# Altium schematic symbol library BundledUserSymbols.SchLib: 915 symbols (part 11 of 17)

## 0187 ST STM32G071KxTxN LQFP32 P
designator IC?
pins: 1 PB9/IR_OUT/UCPD2_FRSTX/TIM17_CH1/USART3_RX/SPI2_NSS/I2C1_SDA, 2 PC14/TIM1_BKIN2/OSC32_IN/OSC_IN, 3 PC15/OSC32_EN/OSC_EN/TIM15_BKIN/OSC32_OUT, 4 VDD/VDDA, 5 VSS/VSSA, 6 PF2/MCO/NRST, 7 PA0/SPI2_SCK/USART2_CTS/TIM2_CH1_ETR/USART4_TX/LPTIM1_OUT/UCPD2_FRSTX/ADC_IN0, 8 PA1/SPI1_SCK/I2S1_CK/USART2_RTS_DE_CK/TIM2_CH2/USART4_RX/I2C1_SMBA/ADC_IN1, 9 PA2/SPI1_MOSI/I2S1_SD/USART2_TX/TIM2_CH3/UCPD1_FRSTX/TIM15_CH1/ADC_IN2/LSCO, 10 PA3/SPI2_MISO/USART2_RX/TIM2_CH4/UCPD2_FRSTX/TIM15_CH2/LPUART1_RX/COMP2_INP/ADC_IN3, 11 PA4/SPI1_NSS/I2S1_WS/SPI2_MOSI/UCPD2_FRSTX/ADC_IN4/DAC_OUT1/RTC_TS/RTC_OUT1, 12 PA5/SPI1_SCK/I2S1_CK/CEC/TIM2_CH1_ETR/USART3_TX/LPTIM2_ETR/UCPD1_FRSTX/ADC_IN5/DAC_OUT2, 13 PA6/SPI1_MISO/I2S1_MCK/TIM3_CH1/TIM1_BKIN/USART3_CTS/TIM16_CH1/LPUART1_CTS/COMP1_OUT/ADC_IN6, 14 PA7/SPI1_MOSI/I2S1_SD/TIM3_CH2/TIM1_CH1N/TIM14_CH1/TIM17_CH1/UCPD1_FRSTX/COMP2_OUT/ADC_IN7, 15 PB0/SPI1_NSS/I2S1_WS/TIM3_CH3/TIM1_CH2N/USART3_RX/LPTIM1_OUT/UCPD1_FRSTX/COMP1_OUT/ADC_IN8, 16 PB1/TIM14_CH1/TIM3_CH4/TIM1_CH3N/USART3_RTS_DE_CK/LPTIM2_IN1/LPUART1_RTS_DE/COMP1_INM/ADC_IN9, 17 PB15/SPI2_MOSI/TIM1_CH3N/TIM15_CH1N/TIM15_CH2/UCPD1_CC2/RTC_REFIN, 18 PA8/MCO/SPI2_NSS/TIM1_CH1/LPTIM2_OUT/UCPD1_CC1, 19 PA9/MCO/USART1_TX/TIM1_CH2/SPI2_MISO/TIM15_BKIN/I2C1_SCL/UCPD1_DBCC1, 20 PC6/UCPD1_FRSTX/TIM3_CH1/TIM2_CH3, 21 PA10/SPI2_MOSI/USART1_RX/TIM1_CH3/TIM17_BKIN/I2C1_SDA/UCPD1_DBCC2, 22 PA11[PA9](4)/SPI1_MISO/I2S1_MCK/USART1_CTS/TIM1_CH4/TIM1_BKIN2/I2C2_SCL/COMP1_OUT, 23 PA12[PA10](4)/SPI1_MOSI/I2S1_SD/USART1_RTS_DE_CK/TIM1_ETR/I2S_CKIN/I2C2_SDA/COMP2_OUT, 24 PA13/SWDIO/IR_OUT, 25 PA14/BOOT0/SWCLK/USART2_TX, 26 PD0/SPI2_NSS/TIM16_CH1/UCPD2_CC1, 27 PD1/SPI2_SCK/TIM17_CH1/UCPD2_DBCC1, 28 PD2/USART3_RTS_DE_CK/TIM3_ETR/TIM1_CH1N/UCPD2_CC2, 29 PD3/USART2_CTS/SPI2_MISO/TIM1_CH2N/UCPD2_DBCC2, 30 PB6/USART1_TX/TIM1_CH3/TIM16_CH1N/SPI2_MISO/LPTIM1_ETR/I2C1_SCL/COMP2_INP, 31 PB7/USART1_RX/SPI2_MOSI/TIM17_CH1N/USART4_CTS/LPTIM1_IN2/I2C1_SDA/COMP2_INM/PVD_IN, 32 PB8/CEC/SPI2_SCK/TIM16_CH1/USART3_TX/TIM15_BKIN/I2C1_SCL

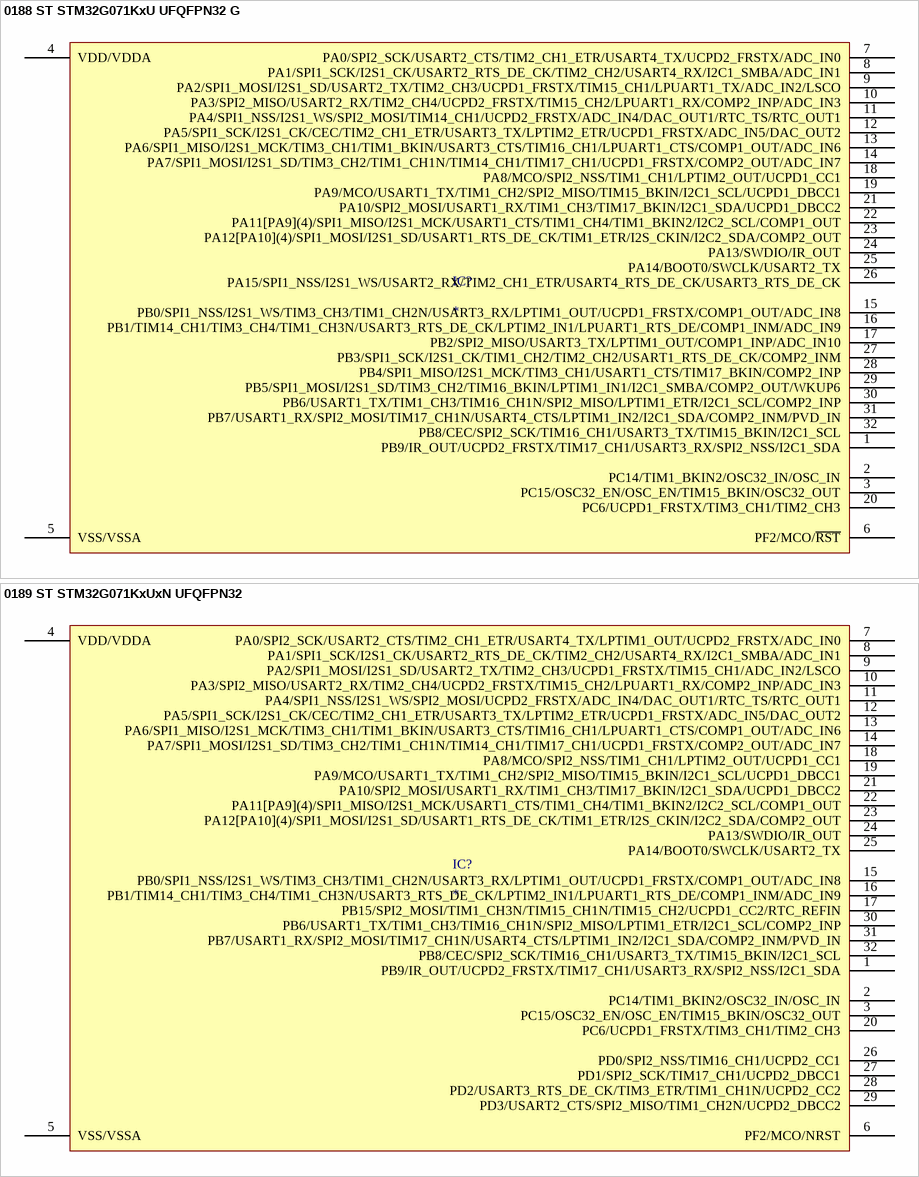
[diagram p98: symbols 0188 ST STM32G071KxU UFQFPN32 G to 0189 ST STM32G071KxUxN UFQFPN32]

## 0188 ST STM32G071KxU UFQFPN32 G
designator IC?
pins: 1 PB9/IR_OUT/UCPD2_FRSTX/TIM17_CH1/USART3_RX/SPI2_NSS/I2C1_SDA, 2 PC14/TIM1_BKIN2/OSC32_IN/OSC_IN, 3 PC15/OSC32_EN/OSC_EN/TIM15_BKIN/OSC32_OUT, 4 VDD/VDDA, 5 VSS/VSSA, 6 PF2/MCO/~{RST}, 7 PA0/SPI2_SCK/USART2_CTS/TIM2_CH1_ETR/USART4_TX/UCPD2_FRSTX/ADC_IN0, 8 PA1/SPI1_SCK/I2S1_CK/USART2_RTS_DE_CK/TIM2_CH2/USART4_RX/I2C1_SMBA/ADC_IN1, 9 PA2/SPI1_MOSI/I2S1_SD/USART2_TX/TIM2_CH3/UCPD1_FRSTX/TIM15_CH1/LPUART1_TX/ADC_IN2/LSCO, 10 PA3/SPI2_MISO/USART2_RX/TIM2_CH4/UCPD2_FRSTX/TIM15_CH2/LPUART1_RX/COMP2_INP/ADC_IN3, 11 PA4/SPI1_NSS/I2S1_WS/SPI2_MOSI/TIM14_CH1/UCPD2_FRSTX/ADC_IN4/DAC_OUT1/RTC_TS/RTC_OUT1, 12 PA5/SPI1_SCK/I2S1_CK/CEC/TIM2_CH1_ETR/USART3_TX/LPTIM2_ETR/UCPD1_FRSTX/ADC_IN5/DAC_OUT2, 13 PA6/SPI1_MISO/I2S1_MCK/TIM3_CH1/TIM1_BKIN/USART3_CTS/TIM16_CH1/LPUART1_CTS/COMP1_OUT/ADC_IN6, 14 PA7/SPI1_MOSI/I2S1_SD/TIM3_CH2/TIM1_CH1N/TIM14_CH1/TIM17_CH1/UCPD1_FRSTX/COMP2_OUT/ADC_IN7, 15 PB0/SPI1_NSS/I2S1_WS/TIM3_CH3/TIM1_CH2N/USART3_RX/LPTIM1_OUT/UCPD1_FRSTX/COMP1_OUT/ADC_IN8, 16 PB1/TIM14_CH1/TIM3_CH4/TIM1_CH3N/USART3_RTS_DE_CK/LPTIM2_IN1/LPUART1_RTS_DE/COMP1_INM/ADC_IN9, 17 PB2/SPI2_MISO/USART3_TX/LPTIM1_OUT/COMP1_INP/ADC_IN10, 18 PA8/MCO/SPI2_NSS/TIM1_CH1/LPTIM2_OUT/UCPD1_CC1, 19 PA9/MCO/USART1_TX/TIM1_CH2/SPI2_MISO/TIM15_BKIN/I2C1_SCL/UCPD1_DBCC1, 20 PC6/UCPD1_FRSTX/TIM3_CH1/TIM2_CH3, 21 PA10/SPI2_MOSI/USART1_RX/TIM1_CH3/TIM17_BKIN/I2C1_SDA/UCPD1_DBCC2, 22 PA11[PA9](4)/SPI1_MISO/I2S1_MCK/USART1_CTS/TIM1_CH4/TIM1_BKIN2/I2C2_SCL/COMP1_OUT, 23 PA12[PA10](4)/SPI1_MOSI/I2S1_SD/USART1_RTS_DE_CK/TIM1_ETR/I2S_CKIN/I2C2_SDA/COMP2_OUT, 24 PA13/SWDIO/IR_OUT, 25 PA14/BOOT0/SWCLK/USART2_TX, 26 PA15/SPI1_NSS/I2S1_WS/USART2_RX/TIM2_CH1_ETR/USART4_RTS_DE_CK/USART3_RTS_DE_CK, 27 PB3/SPI1_SCK/I2S1_CK/TIM1_CH2/TIM2_CH2/USART1_RTS_DE_CK/COMP2_INM, 28 PB4/SPI1_MISO/I2S1_MCK/TIM3_CH1/USART1_CTS/TIM17_BKIN/COMP2_INP, 29 PB5/SPI1_MOSI/I2S1_SD/TIM3_CH2/TIM16_BKIN/LPTIM1_IN1/I2C1_SMBA/COMP2_OUT/WKUP6, 30 PB6/USART1_TX/TIM1_CH3/TIM16_CH1N/SPI2_MISO/LPTIM1_ETR/I2C1_SCL/COMP2_INP, 31 PB7/USART1_RX/SPI2_MOSI/TIM17_CH1N/USART4_CTS/LPTIM1_IN2/I2C1_SDA/COMP2_INM/PVD_IN, 32 PB8/CEC/SPI2_SCK/TIM16_CH1/USART3_TX/TIM15_BKIN/I2C1_SCL

## 0189 ST STM32G071KxUxN UFQFPN32
designator IC?
pins: 1 PB9/IR_OUT/UCPD2_FRSTX/TIM17_CH1/USART3_RX/SPI2_NSS/I2C1_SDA, 2 PC14/TIM1_BKIN2/OSC32_IN/OSC_IN, 3 PC15/OSC32_EN/OSC_EN/TIM15_BKIN/OSC32_OUT, 4 VDD/VDDA, 5 VSS/VSSA, 6 PF2/MCO/NRST, 7 PA0/SPI2_SCK/USART2_CTS/TIM2_CH1_ETR/USART4_TX/LPTIM1_OUT/UCPD2_FRSTX/ADC_IN0, 8 PA1/SPI1_SCK/I2S1_CK/USART2_RTS_DE_CK/TIM2_CH2/USART4_RX/I2C1_SMBA/ADC_IN1, 9 PA2/SPI1_MOSI/I2S1_SD/USART2_TX/TIM2_CH3/UCPD1_FRSTX/TIM15_CH1/ADC_IN2/LSCO, 10 PA3/SPI2_MISO/USART2_RX/TIM2_CH4/UCPD2_FRSTX/TIM15_CH2/LPUART1_RX/COMP2_INP/ADC_IN3, 11 PA4/SPI1_NSS/I2S1_WS/SPI2_MOSI/UCPD2_FRSTX/ADC_IN4/DAC_OUT1/RTC_TS/RTC_OUT1, 12 PA5/SPI1_SCK/I2S1_CK/CEC/TIM2_CH1_ETR/USART3_TX/LPTIM2_ETR/UCPD1_FRSTX/ADC_IN5/DAC_OUT2, 13 PA6/SPI1_MISO/I2S1_MCK/TIM3_CH1/TIM1_BKIN/USART3_CTS/TIM16_CH1/LPUART1_CTS/COMP1_OUT/ADC_IN6, 14 PA7/SPI1_MOSI/I2S1_SD/TIM3_CH2/TIM1_CH1N/TIM14_CH1/TIM17_CH1/UCPD1_FRSTX/COMP2_OUT/ADC_IN7, 15 PB0/SPI1_NSS/I2S1_WS/TIM3_CH3/TIM1_CH2N/USART3_RX/LPTIM1_OUT/UCPD1_FRSTX/COMP1_OUT/ADC_IN8, 16 PB1/TIM14_CH1/TIM3_CH4/TIM1_CH3N/USART3_RTS_DE_CK/LPTIM2_IN1/LPUART1_RTS_DE/COMP1_INM/ADC_IN9, 17 PB15/SPI2_MOSI/TIM1_CH3N/TIM15_CH1N/TIM15_CH2/UCPD1_CC2/RTC_REFIN, 18 PA8/MCO/SPI2_NSS/TIM1_CH1/LPTIM2_OUT/UCPD1_CC1, 19 PA9/MCO/USART1_TX/TIM1_CH2/SPI2_MISO/TIM15_BKIN/I2C1_SCL/UCPD1_DBCC1, 20 PC6/UCPD1_FRSTX/TIM3_CH1/TIM2_CH3, 21 PA10/SPI2_MOSI/USART1_RX/TIM1_CH3/TIM17_BKIN/I2C1_SDA/UCPD1_DBCC2, 22 PA11[PA9](4)/SPI1_MISO/I2S1_MCK/USART1_CTS/TIM1_CH4/TIM1_BKIN2/I2C2_SCL/COMP1_OUT, 23 PA12[PA10](4)/SPI1_MOSI/I2S1_SD/USART1_RTS_DE_CK/TIM1_ETR/I2S_CKIN/I2C2_SDA/COMP2_OUT, 24 PA13/SWDIO/IR_OUT, 25 PA14/BOOT0/SWCLK/USART2_TX, 26 PD0/SPI2_NSS/TIM16_CH1/UCPD2_CC1, 27 PD1/SPI2_SCK/TIM17_CH1/UCPD2_DBCC1, 28 PD2/USART3_RTS_DE_CK/TIM3_ETR/TIM1_CH1N/UCPD2_CC2, 29 PD3/USART2_CTS/SPI2_MISO/TIM1_CH2N/UCPD2_DBCC2, 30 PB6/USART1_TX/TIM1_CH3/TIM16_CH1N/SPI2_MISO/LPTIM1_ETR/I2C1_SCL/COMP2_INP, 31 PB7/USART1_RX/SPI2_MOSI/TIM17_CH1N/USART4_CTS/LPTIM1_IN2/I2C1_SDA/COMP2_INM/PVD_IN, 32 PB8/CEC/SPI2_SCK/TIM16_CH1/USART3_TX/TIM15_BKIN/I2C1_SCL

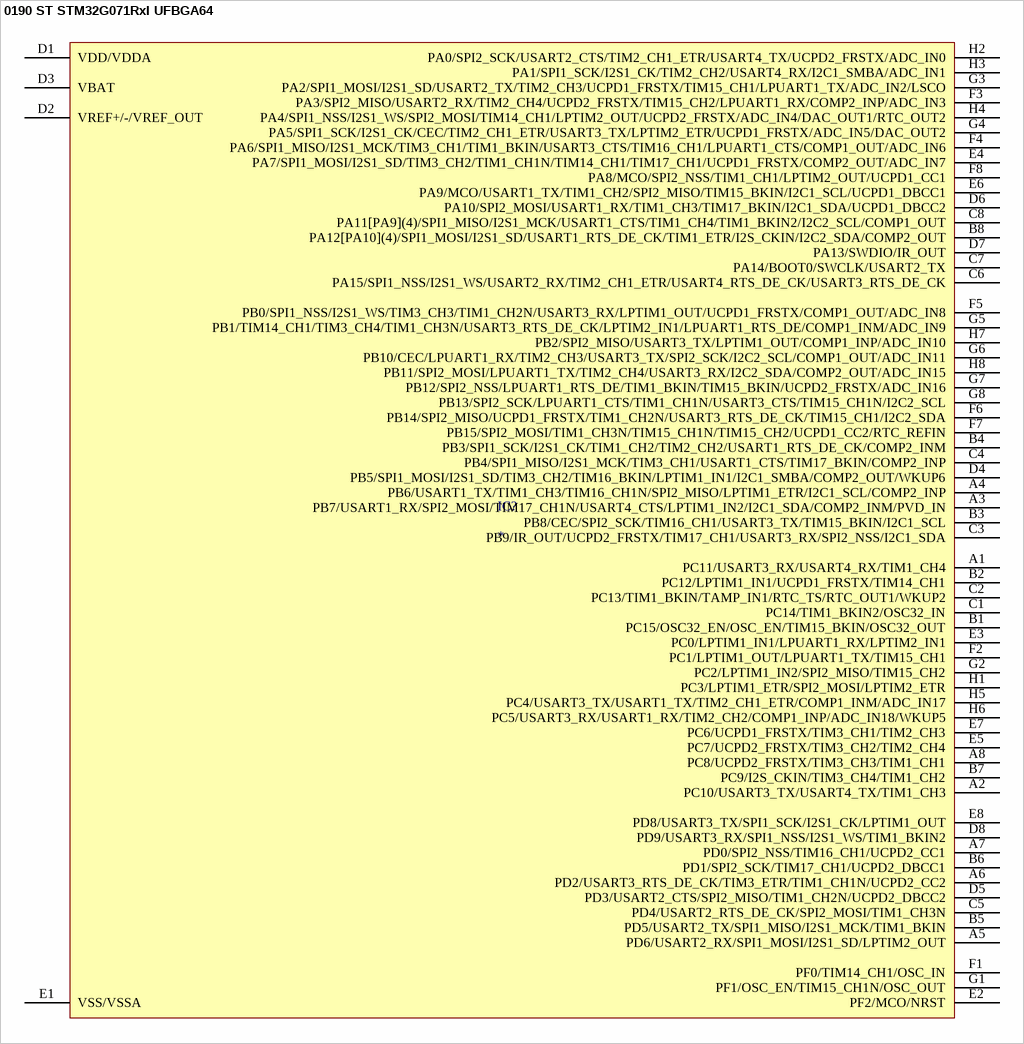
[diagram p99: symbol 0190 ST STM32G071RxI UFBGA64]

## 0190 ST STM32G071RxI UFBGA64
designator IC?
pins: A1 PC11/USART3_RX/USART4_RX/TIM1_CH4, A2 PC10/USART3_TX/USART4_TX/TIM1_CH3, A3 PB7/USART1_RX/SPI2_MOSI/TIM17_CH1N/USART4_CTS/LPTIM1_IN2/I2C1_SDA/COMP2_INM/PVD_IN, A4 PB6/USART1_TX/TIM1_CH3/TIM16_CH1N/SPI2_MISO/LPTIM1_ETR/I2C1_SCL/COMP2_INP, A5 PD6/USART2_RX/SPI1_MOSI/I2S1_SD/LPTIM2_OUT, A6 PD2/USART3_RTS_DE_CK/TIM3_ETR/TIM1_CH1N/UCPD2_CC2, A7 PD0/SPI2_NSS/TIM16_CH1/UCPD2_CC1, A8 PC8/UCPD2_FRSTX/TIM3_CH3/TIM1_CH1, B1 PC15/OSC32_EN/OSC_EN/TIM15_BKIN/OSC32_OUT, B2 PC12/LPTIM1_IN1/UCPD1_FRSTX/TIM14_CH1, B3 PB8/CEC/SPI2_SCK/TIM16_CH1/USART3_TX/TIM15_BKIN/I2C1_SCL, B4 PB3/SPI1_SCK/I2S1_CK/TIM1_CH2/TIM2_CH2/USART1_RTS_DE_CK/COMP2_INM, B5 PD5/USART2_TX/SPI1_MISO/I2S1_MCK/TIM1_BKIN, B6 PD1/SPI2_SCK/TIM17_CH1/UCPD2_DBCC1, B7 PC9/I2S_CKIN/TIM3_CH4/TIM1_CH2, B8 PA12[PA10](4)/SPI1_MOSI/I2S1_SD/USART1_RTS_DE_CK/TIM1_ETR/I2S_CKIN/I2C2_SDA/COMP2_OUT, C1 PC14/TIM1_BKIN2/OSC32_IN, C2 PC13/TIM1_BKIN/TAMP_IN1/RTC_TS/RTC_OUT1/WKUP2, C3 PB9/IR_OUT/UCPD2_FRSTX/TIM17_CH1/USART3_RX/SPI2_NSS/I2C1_SDA, C4 PB4/SPI1_MISO/I2S1_MCK/TIM3_CH1/USART1_CTS/TIM17_BKIN/COMP2_INP, C5 PD4/USART2_RTS_DE_CK/SPI2_MOSI/TIM1_CH3N, C6 PA15/SPI1_NSS/I2S1_WS/USART2_RX/TIM2_CH1_ETR/USART4_RTS_DE_CK/USART3_RTS_DE_CK, C7 PA14/BOOT0/SWCLK/USART2_TX, C8 PA11[PA9](4)/SPI1_MISO/I2S1_MCK/USART1_CTS/TIM1_CH4/TIM1_BKIN2/I2C2_SCL/COMP1_OUT, D1 VDD/VDDA, D2 VREF+/-/VREF_OUT, D3 VBAT, D4 PB5/SPI1_MOSI/I2S1_SD/TIM3_CH2/TIM16_BKIN/LPTIM1_IN1/I2C1_SMBA/COMP2_OUT/WKUP6, D5 PD3/USART2_CTS/SPI2_MISO/TIM1_CH2N/UCPD2_DBCC2, D6 PA10/SPI2_MOSI/USART1_RX/TIM1_CH3/TIM17_BKIN/I2C1_SDA/UCPD1_DBCC2, D7 PA13/SWDIO/IR_OUT, D8 PD9/USART3_RX/SPI1_NSS/I2S1_WS/TIM1_BKIN2, E1 VSS/VSSA, E2 PF2/MCO/NRST, E3 PC0/LPTIM1_IN1/LPUART1_RX/LPTIM2_IN1, E4 PA7/SPI1_MOSI/I2S1_SD/TIM3_CH2/TIM1_CH1N/TIM14_CH1/TIM17_CH1/UCPD1_FRSTX/COMP2_OUT/ADC_IN7, E5 PC7/UCPD2_FRSTX/TIM3_CH2/TIM2_CH4, E6 PA9/MCO/USART1_TX/TIM1_CH2/SPI2_MISO/TIM15_BKIN/I2C1_SCL/UCPD1_DBCC1, E7 PC6/UCPD1_FRSTX/TIM3_CH1/TIM2_CH3, E8 PD8/USART3_TX/SPI1_SCK/I2S1_CK/LPTIM1_OUT, F1 PF0/TIM14_CH1/OSC_IN, F2 PC1/LPTIM1_OUT/LPUART1_TX/TIM15_CH1, F3 PA3/SPI2_MISO/USART2_RX/TIM2_CH4/UCPD2_FRSTX/TIM15_CH2/LPUART1_RX/COMP2_INP/ADC_IN3, F4 PA6/SPI1_MISO/I2S1_MCK/TIM3_CH1/TIM1_BKIN/USART3_CTS/TIM16_CH1/LPUART1_CTS/COMP1_OUT/ADC_IN6, F5 PB0/SPI1_NSS/I2S1_WS/TIM3_CH3/TIM1_CH2N/USART3_RX/LPTIM1_OUT/UCPD1_FRSTX/COMP1_OUT/ADC_IN8, F6 PB14/SPI2_MISO/UCPD1_FRSTX/TIM1_CH2N/USART3_RTS_DE_CK/TIM15_CH1/I2C2_SDA, F7 PB15/SPI2_MOSI/TIM1_CH3N/TIM15_CH1N/TIM15_CH2/UCPD1_CC2/RTC_REFIN, F8 PA8/MCO/SPI2_NSS/TIM1_CH1/LPTIM2_OUT/UCPD1_CC1, G1 PF1/OSC_EN/TIM15_CH1N/OSC_OUT, G2 PC2/LPTIM1_IN2/SPI2_MISO/TIM15_CH2, G3 PA2/SPI1_MOSI/I2S1_SD/USART2_TX/TIM2_CH3/UCPD1_FRSTX/TIM15_CH1/LPUART1_TX/ADC_IN2/LSCO, G4 PA5/SPI1_SCK/I2S1_CK/CEC/TIM2_CH1_ETR/USART3_TX/LPTIM2_ETR/UCPD1_FRSTX/ADC_IN5/DAC_OUT2, G5 PB1/TIM14_CH1/TIM3_CH4/TIM1_CH3N/USART3_RTS_DE_CK/LPTIM2_IN1/LPUART1_RTS_DE/COMP1_INM/ADC_IN9, G6 PB10/CEC/LPUART1_RX/TIM2_CH3/USART3_TX/SPI2_SCK/I2C2_SCL/COMP1_OUT/ADC_IN11, G7 PB12/SPI2_NSS/LPUART1_RTS_DE/TIM1_BKIN/TIM15_BKIN/UCPD2_FRSTX/ADC_IN16, G8 PB13/SPI2_SCK/LPUART1_CTS/TIM1_CH1N/USART3_CTS/TIM15_CH1N/I2C2_SCL, H1 PC3/LPTIM1_ETR/SPI2_MOSI/LPTIM2_ETR, H2 PA0/SPI2_SCK/USART2_CTS/TIM2_CH1_ETR/USART4_TX/UCPD2_FRSTX/ADC_IN0, H3 PA1/SPI1_SCK/I2S1_CK/TIM2_CH2/USART4_RX/I2C1_SMBA/ADC_IN1, H4 PA4/SPI1_NSS/I2S1_WS/SPI2_MOSI/TIM14_CH1/LPTIM2_OUT/UCPD2_FRSTX/ADC_IN4/DAC_OUT1/RTC_OUT2, H5 PC4/USART3_TX/USART1_TX/TIM2_CH1_ETR/COMP1_INM/ADC_IN17, H6 PC5/USART3_RX/USART1_RX/TIM2_CH2/COMP1_INP/ADC_IN18/WKUP5, H7 PB2/SPI2_MISO/USART3_TX/LPTIM1_OUT/COMP1_INP/ADC_IN10, H8 PB11/SPI2_MOSI/LPUART1_TX/TIM2_CH4/USART3_RX/I2C2_SDA/COMP2_OUT/ADC_IN15

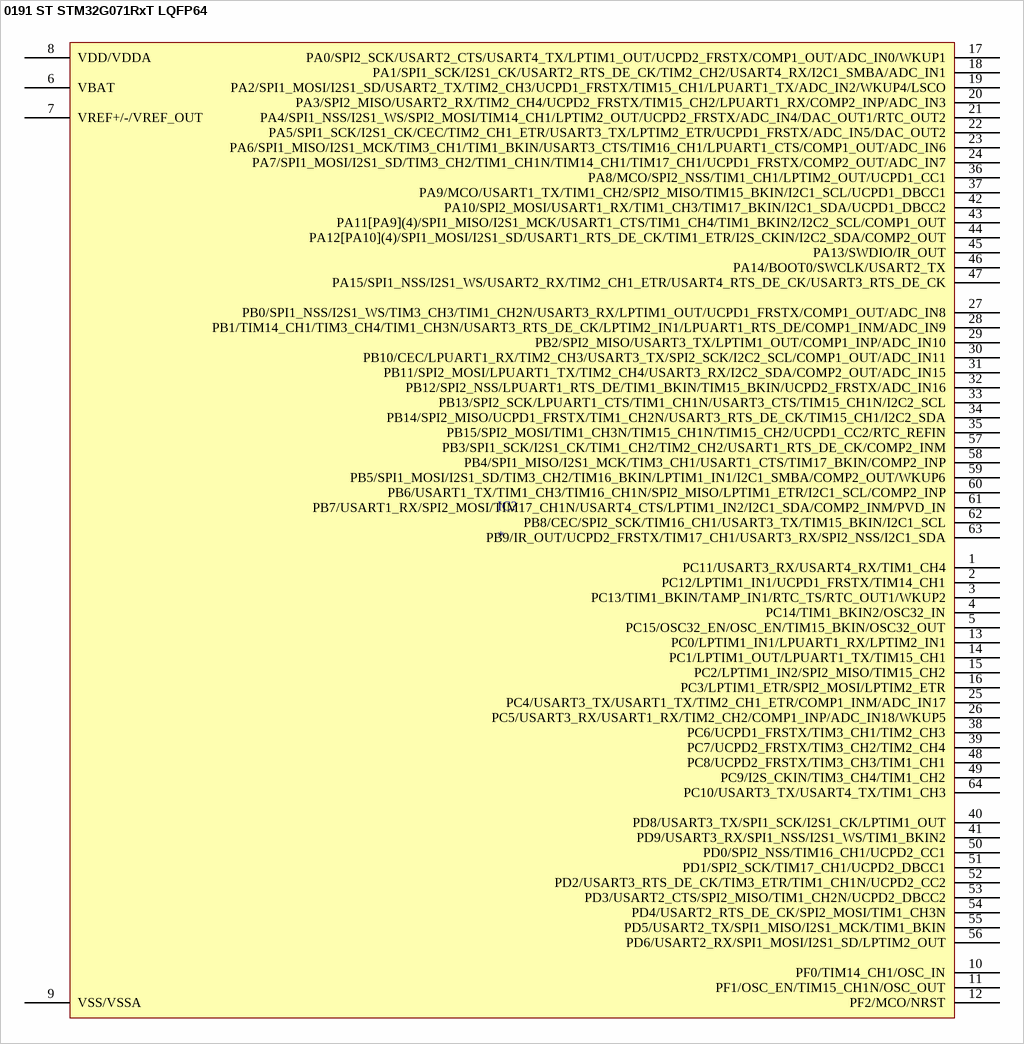
[diagram p100: symbol 0191 ST STM32G071RxT LQFP64]

## 0191 ST STM32G071RxT LQFP64
designator IC?
pins: 1 PC11/USART3_RX/USART4_RX/TIM1_CH4, 2 PC12/LPTIM1_IN1/UCPD1_FRSTX/TIM14_CH1, 3 PC13/TIM1_BKIN/TAMP_IN1/RTC_TS/RTC_OUT1/WKUP2, 4 PC14/TIM1_BKIN2/OSC32_IN, 5 PC15/OSC32_EN/OSC_EN/TIM15_BKIN/OSC32_OUT, 6 VBAT, 7 VREF+/-/VREF_OUT, 8 VDD/VDDA, 9 VSS/VSSA, 10 PF0/TIM14_CH1/OSC_IN, 11 PF1/OSC_EN/TIM15_CH1N/OSC_OUT, 12 PF2/MCO/NRST, 13 PC0/LPTIM1_IN1/LPUART1_RX/LPTIM2_IN1, 14 PC1/LPTIM1_OUT/LPUART1_TX/TIM15_CH1, 15 PC2/LPTIM1_IN2/SPI2_MISO/TIM15_CH2, 16 PC3/LPTIM1_ETR/SPI2_MOSI/LPTIM2_ETR, 17 PA0/SPI2_SCK/USART2_CTS/USART4_TX/LPTIM1_OUT/UCPD2_FRSTX/COMP1_OUT/ADC_IN0/WKUP1, 18 PA1/SPI1_SCK/I2S1_CK/USART2_RTS_DE_CK/TIM2_CH2/USART4_RX/I2C1_SMBA/ADC_IN1, 19 PA2/SPI1_MOSI/I2S1_SD/USART2_TX/TIM2_CH3/UCPD1_FRSTX/TIM15_CH1/LPUART1_TX/ADC_IN2/WKUP4/LSCO, 20 PA3/SPI2_MISO/USART2_RX/TIM2_CH4/UCPD2_FRSTX/TIM15_CH2/LPUART1_RX/COMP2_INP/ADC_IN3, 21 PA4/SPI1_NSS/I2S1_WS/SPI2_MOSI/TIM14_CH1/LPTIM2_OUT/UCPD2_FRSTX/ADC_IN4/DAC_OUT1/RTC_OUT2, 22 PA5/SPI1_SCK/I2S1_CK/CEC/TIM2_CH1_ETR/USART3_TX/LPTIM2_ETR/UCPD1_FRSTX/ADC_IN5/DAC_OUT2, 23 PA6/SPI1_MISO/I2S1_MCK/TIM3_CH1/TIM1_BKIN/USART3_CTS/TIM16_CH1/LPUART1_CTS/COMP1_OUT/ADC_IN6, 24 PA7/SPI1_MOSI/I2S1_SD/TIM3_CH2/TIM1_CH1N/TIM14_CH1/TIM17_CH1/UCPD1_FRSTX/COMP2_OUT/ADC_IN7, 25 PC4/USART3_TX/USART1_TX/TIM2_CH1_ETR/COMP1_INM/ADC_IN17, 26 PC5/USART3_RX/USART1_RX/TIM2_CH2/COMP1_INP/ADC_IN18/WKUP5, 27 PB0/SPI1_NSS/I2S1_WS/TIM3_CH3/TIM1_CH2N/USART3_RX/LPTIM1_OUT/UCPD1_FRSTX/COMP1_OUT/ADC_IN8, 28 PB1/TIM14_CH1/TIM3_CH4/TIM1_CH3N/USART3_RTS_DE_CK/LPTIM2_IN1/LPUART1_RTS_DE/COMP1_INM/ADC_IN9, 29 PB2/SPI2_MISO/USART3_TX/LPTIM1_OUT/COMP1_INP/ADC_IN10, 30 PB10/CEC/LPUART1_RX/TIM2_CH3/USART3_TX/SPI2_SCK/I2C2_SCL/COMP1_OUT/ADC_IN11, 31 PB11/SPI2_MOSI/LPUART1_TX/TIM2_CH4/USART3_RX/I2C2_SDA/COMP2_OUT/ADC_IN15, 32 PB12/SPI2_NSS/LPUART1_RTS_DE/TIM1_BKIN/TIM15_BKIN/UCPD2_FRSTX/ADC_IN16, 33 PB13/SPI2_SCK/LPUART1_CTS/TIM1_CH1N/USART3_CTS/TIM15_CH1N/I2C2_SCL, 34 PB14/SPI2_MISO/UCPD1_FRSTX/TIM1_CH2N/USART3_RTS_DE_CK/TIM15_CH1/I2C2_SDA, 35 PB15/SPI2_MOSI/TIM1_CH3N/TIM15_CH1N/TIM15_CH2/UCPD1_CC2/RTC_REFIN, 36 PA8/MCO/SPI2_NSS/TIM1_CH1/LPTIM2_OUT/UCPD1_CC1, 37 PA9/MCO/USART1_TX/TIM1_CH2/SPI2_MISO/TIM15_BKIN/I2C1_SCL/UCPD1_DBCC1, 38 PC6/UCPD1_FRSTX/TIM3_CH1/TIM2_CH3, 39 PC7/UCPD2_FRSTX/TIM3_CH2/TIM2_CH4, 40 PD8/USART3_TX/SPI1_SCK/I2S1_CK/LPTIM1_OUT, 41 PD9/USART3_RX/SPI1_NSS/I2S1_WS/TIM1_BKIN2, 42 PA10/SPI2_MOSI/USART1_RX/TIM1_CH3/TIM17_BKIN/I2C1_SDA/UCPD1_DBCC2, 43 PA11[PA9](4)/SPI1_MISO/I2S1_MCK/USART1_CTS/TIM1_CH4/TIM1_BKIN2/I2C2_SCL/COMP1_OUT, 44 PA12[PA10](4)/SPI1_MOSI/I2S1_SD/USART1_RTS_DE_CK/TIM1_ETR/I2S_CKIN/I2C2_SDA/COMP2_OUT, 45 PA13/SWDIO/IR_OUT, 46 PA14/BOOT0/SWCLK/USART2_TX, 47 PA15/SPI1_NSS/I2S1_WS/USART2_RX/TIM2_CH1_ETR/USART4_RTS_DE_CK/USART3_RTS_DE_CK, 48 PC8/UCPD2_FRSTX/TIM3_CH3/TIM1_CH1, 49 PC9/I2S_CKIN/TIM3_CH4/TIM1_CH2, 50 PD0/SPI2_NSS/TIM16_CH1/UCPD2_CC1, 51 PD1/SPI2_SCK/TIM17_CH1/UCPD2_DBCC1, 52 PD2/USART3_RTS_DE_CK/TIM3_ETR/TIM1_CH1N/UCPD2_CC2, 53 PD3/USART2_CTS/SPI2_MISO/TIM1_CH2N/UCPD2_DBCC2, 54 PD4/USART2_RTS_DE_CK/SPI2_MOSI/TIM1_CH3N, 55 PD5/USART2_TX/SPI1_MISO/I2S1_MCK/TIM1_BKIN, 56 PD6/USART2_RX/SPI1_MOSI/I2S1_SD/LPTIM2_OUT, 57 PB3/SPI1_SCK/I2S1_CK/TIM1_CH2/TIM2_CH2/USART1_RTS_DE_CK/COMP2_INM, 58 PB4/SPI1_MISO/I2S1_MCK/TIM3_CH1/USART1_CTS/TIM17_BKIN/COMP2_INP, 59 PB5/SPI1_MOSI/I2S1_SD/TIM3_CH2/TIM16_BKIN/LPTIM1_IN1/I2C1_SMBA/COMP2_OUT/WKUP6, 60 PB6/USART1_TX/TIM1_CH3/TIM16_CH1N/SPI2_MISO/LPTIM1_ETR/I2C1_SCL/COMP2_INP, 61 PB7/USART1_RX/SPI2_MOSI/TIM17_CH1N/USART4_CTS/LPTIM1_IN2/I2C1_SDA/COMP2_INM/PVD_IN, 62 PB8/CEC/SPI2_SCK/TIM16_CH1/USART3_TX/TIM15_BKIN/I2C1_SCL, 63 PB9/IR_OUT/UCPD2_FRSTX/TIM17_CH1/USART3_RX/SPI2_NSS/I2C1_SDA, 64 PC10/USART3_TX/USART4_TX/TIM1_CH3

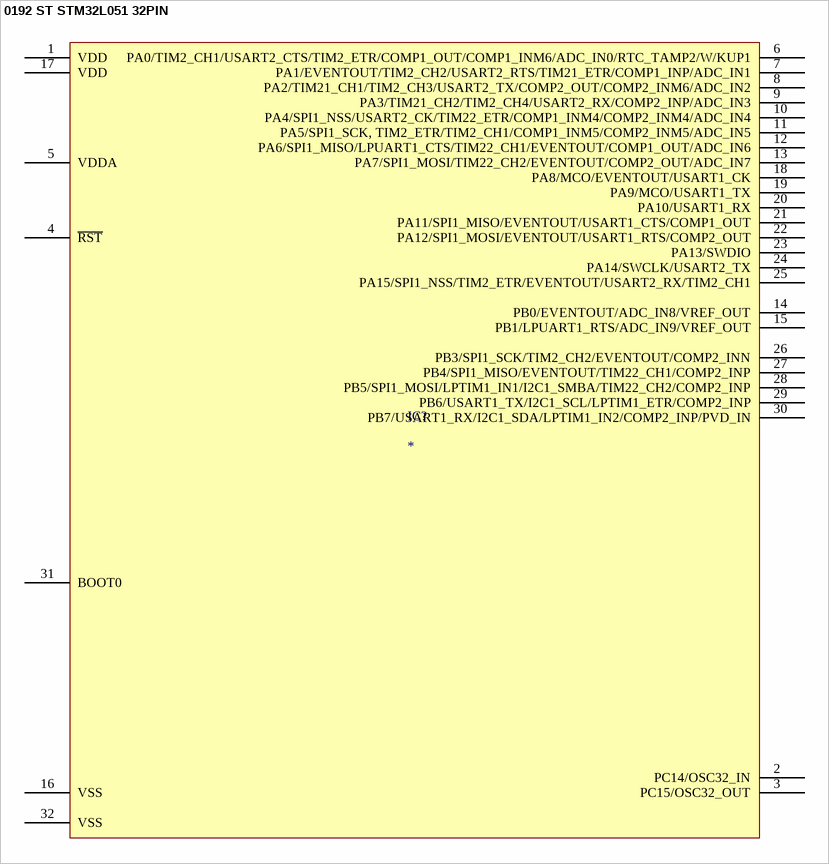
[diagram p101: symbol 0192 ST STM32L051 32PIN]

## 0192 ST STM32L051 32PIN
designator IC?
pins: 1 VDD, 2 PC14/OSC32_IN, 3 PC15/OSC32_OUT, 4 ~{RST}, 5 VDDA, 6 PA0/TIM2_CH1/USART2_CTS/TIM2_ETR/COMP1_OUT/COMP1_INM6/ADC_IN0/RTC_TAMP2/W/KUP1, 7 PA1/EVENTOUT/TIM2_CH2/USART2_RTS/TIM21_ETR/COMP1_INP/ADC_IN1, 8 PA2/TIM21_CH1/TIM2_CH3/USART2_TX/COMP2_OUT/COMP2_INM6/ADC_IN2, 9 PA3/TIM21_CH2/TIM2_CH4/USART2_RX/COMP2_INP/ADC_IN3, 10 PA4/SPI1_NSS/USART2_CK/TIM22_ETR/COMP1_INM4/COMP2_INM4/ADC_IN4, 11 PA5/SPI1_SCK, TIM2_ETR/TIM2_CH1/COMP1_INM5/COMP2_INM5/ADC_IN5, 12 PA6/SPI1_MISO/LPUART1_CTS/TIM22_CH1/EVENTOUT/COMP1_OUT/ADC_IN6, 13 PA7/SPI1_MOSI/TIM22_CH2/EVENTOUT/COMP2_OUT/ADC_IN7, 14 PB0/EVENTOUT/ADC_IN8/VREF_OUT, 15 PB1/LPUART1_RTS/ADC_IN9/VREF_OUT, 16 VSS, 17 VDD, 18 PA8/MCO/EVENTOUT/USART1_CK, 19 PA9/MCO/USART1_TX, 20 PA10/USART1_RX, 21 PA11/SPI1_MISO/EVENTOUT/USART1_CTS/COMP1_OUT, 22 PA12/SPI1_MOSI/EVENTOUT/USART1_RTS/COMP2_OUT, 23 PA13/SWDIO, 24 PA14/SWCLK/USART2_TX, 25 PA15/SPI1_NSS/TIM2_ETR/EVENTOUT/USART2_RX/TIM2_CH1, 26 PB3/SPI1_SCK/TIM2_CH2/EVENTOUT/COMP2_INN, 27 PB4/SPI1_MISO/EVENTOUT/TIM22_CH1/COMP2_INP, 28 PB5/SPI1_MOSI/LPTIM1_IN1/I2C1_SMBA/TIM22_CH2/COMP2_INP, 29 PB6/USART1_TX/I2C1_SCL/LPTIM1_ETR/COMP2_INP, 30 PB7/USART1_RX/I2C1_SDA/LPTIM1_IN2/COMP2_INP/PVD_IN, 31 BOOT0, 32 VSS

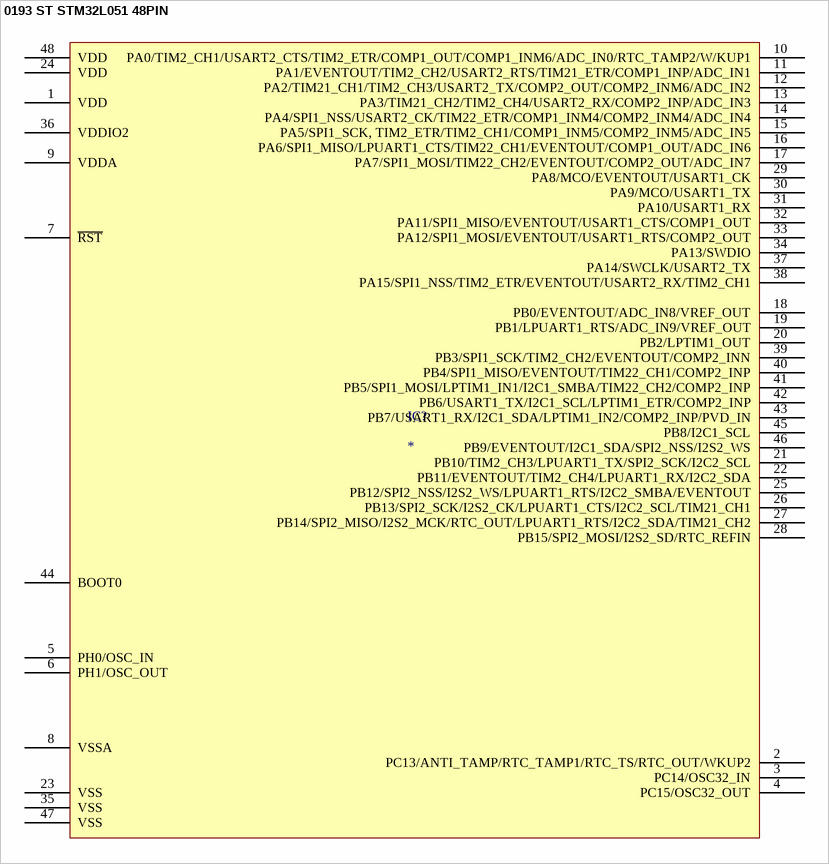
[diagram p102: symbol 0193 ST STM32L051 48PIN]

## 0193 ST STM32L051 48PIN
designator IC?
pins: 1 VDD, 2 PC13/ANTI_TAMP/RTC_TAMP1/RTC_TS/RTC_OUT/WKUP2, 3 PC14/OSC32_IN, 4 PC15/OSC32_OUT, 5 PH0/OSC_IN, 6 PH1/OSC_OUT, 7 ~{RST}, 8 VSSA, 9 VDDA, 10 PA0/TIM2_CH1/USART2_CTS/TIM2_ETR/COMP1_OUT/COMP1_INM6/ADC_IN0/RTC_TAMP2/W/KUP1, 11 PA1/EVENTOUT/TIM2_CH2/USART2_RTS/TIM21_ETR/COMP1_INP/ADC_IN1, 12 PA2/TIM21_CH1/TIM2_CH3/USART2_TX/COMP2_OUT/COMP2_INM6/ADC_IN2, 13 PA3/TIM21_CH2/TIM2_CH4/USART2_RX/COMP2_INP/ADC_IN3, 14 PA4/SPI1_NSS/USART2_CK/TIM22_ETR/COMP1_INM4/COMP2_INM4/ADC_IN4, 15 PA5/SPI1_SCK, TIM2_ETR/TIM2_CH1/COMP1_INM5/COMP2_INM5/ADC_IN5, 16 PA6/SPI1_MISO/LPUART1_CTS/TIM22_CH1/EVENTOUT/COMP1_OUT/ADC_IN6, 17 PA7/SPI1_MOSI/TIM22_CH2/EVENTOUT/COMP2_OUT/ADC_IN7, 18 PB0/EVENTOUT/ADC_IN8/VREF_OUT, 19 PB1/LPUART1_RTS/ADC_IN9/VREF_OUT, 20 PB2/LPTIM1_OUT, 21 PB10/TIM2_CH3/LPUART1_TX/SPI2_SCK/I2C2_SCL, 22 PB11/EVENTOUT/TIM2_CH4/LPUART1_RX/I2C2_SDA, 23 VSS, 24 VDD, 25 PB12/SPI2_NSS/I2S2_WS/LPUART1_RTS/I2C2_SMBA/EVENTOUT, 26 PB13/SPI2_SCK/I2S2_CK/LPUART1_CTS/I2C2_SCL/TIM21_CH1, 27 PB14/SPI2_MISO/I2S2_MCK/RTC_OUT/LPUART1_RTS/I2C2_SDA/TIM21_CH2, 28 PB15/SPI2_MOSI/I2S2_SD/RTC_REFIN, 29 PA8/MCO/EVENTOUT/USART1_CK, 30 PA9/MCO/USART1_TX, 31 PA10/USART1_RX, 32 PA11/SPI1_MISO/EVENTOUT/USART1_CTS/COMP1_OUT, 33 PA12/SPI1_MOSI/EVENTOUT/USART1_RTS/COMP2_OUT, 34 PA13/SWDIO, 35 VSS, 36 VDDIO2, 37 PA14/SWCLK/USART2_TX, 38 PA15/SPI1_NSS/TIM2_ETR/EVENTOUT/USART2_RX/TIM2_CH1, 39 PB3/SPI1_SCK/TIM2_CH2/EVENTOUT/COMP2_INN, 40 PB4/SPI1_MISO/EVENTOUT/TIM22_CH1/COMP2_INP, 41 PB5/SPI1_MOSI/LPTIM1_IN1/I2C1_SMBA/TIM22_CH2/COMP2_INP, 42 PB6/USART1_TX/I2C1_SCL/LPTIM1_ETR/COMP2_INP, 43 PB7/USART1_RX/I2C1_SDA/LPTIM1_IN2/COMP2_INP/PVD_IN, 44 BOOT0, 45 PB8/I2C1_SCL, 46 PB9/EVENTOUT/I2C1_SDA/SPI2_NSS/I2S2_WS, 47 VSS, 48 VDD

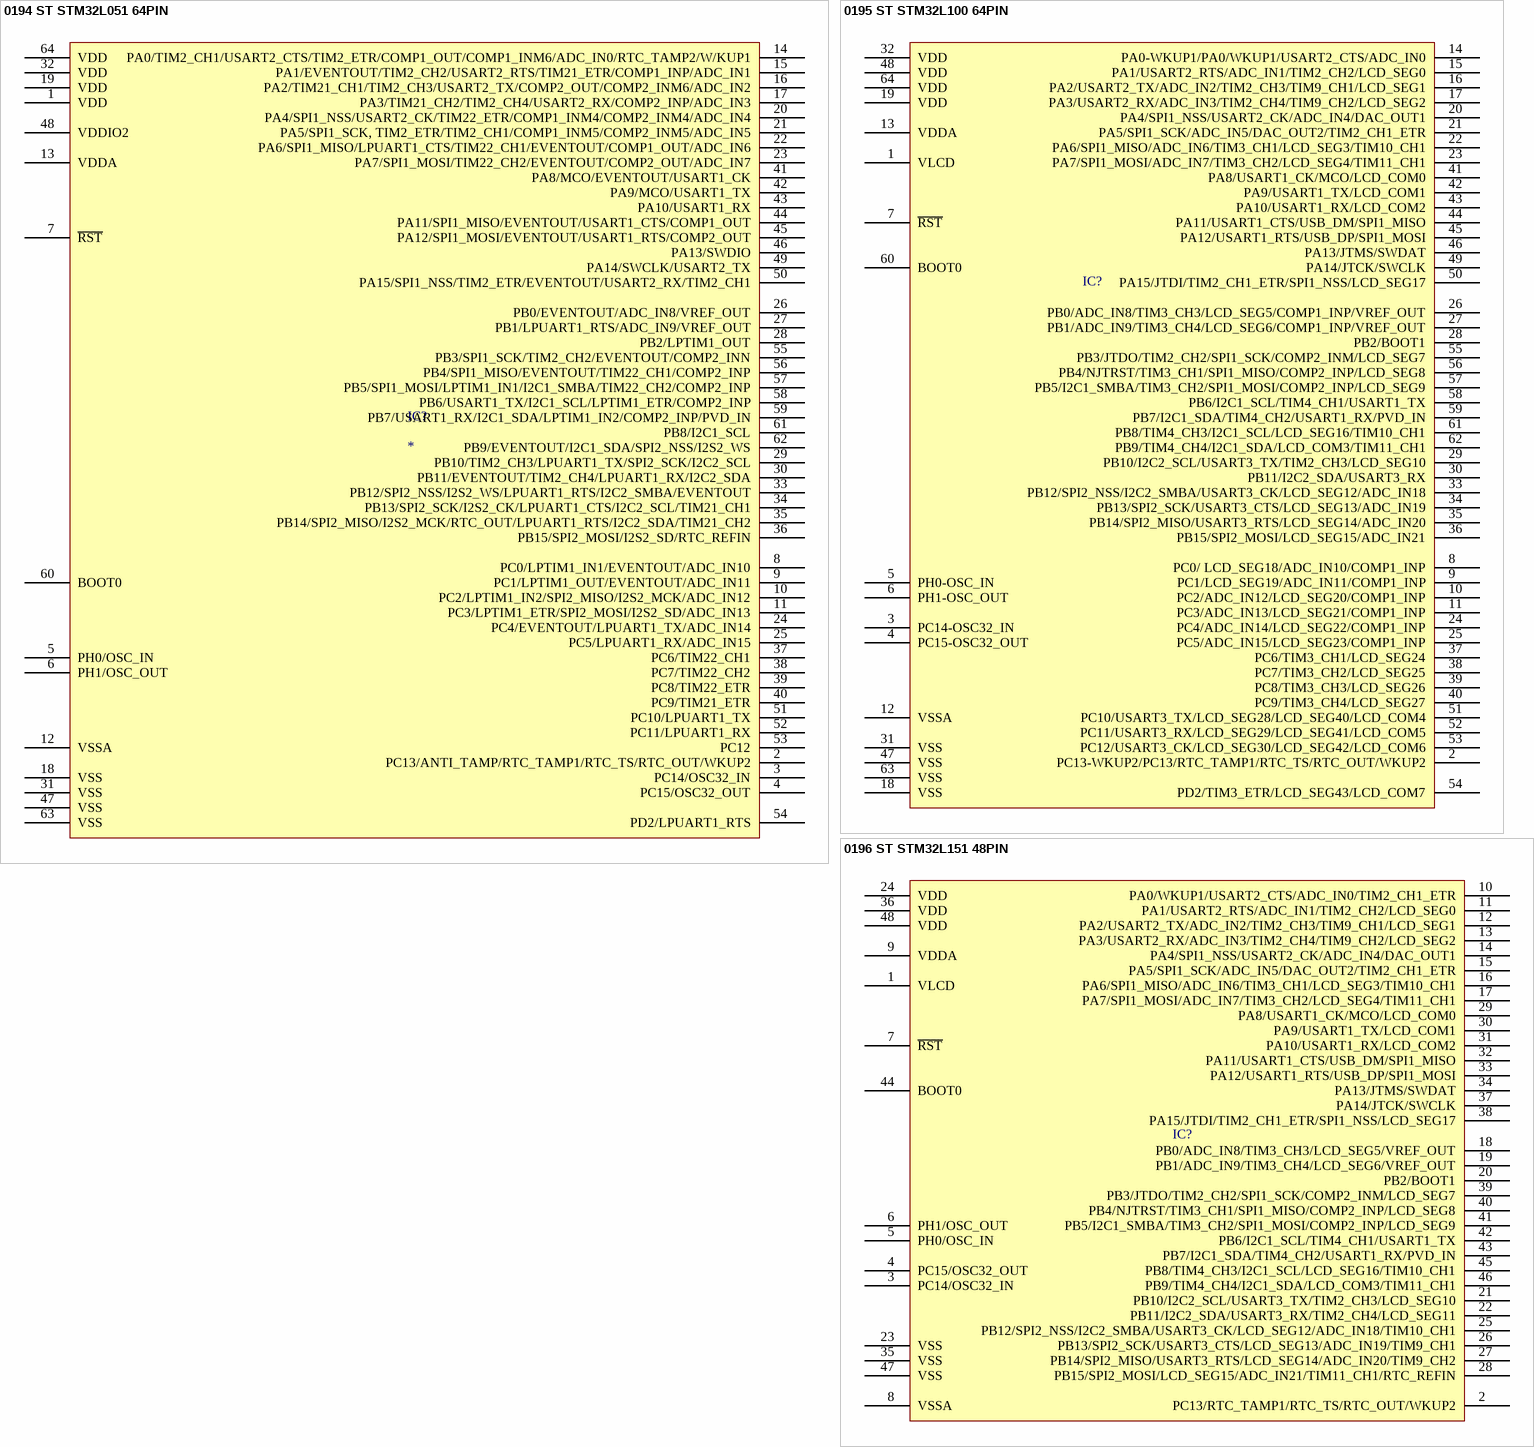
[diagram p103: symbols 0194 ST STM32L051 64PIN to 0196 ST STM32L151 48PIN]

## 0194 ST STM32L051 64PIN
designator IC?
pins: 1 VDD, 2 PC13/ANTI_TAMP/RTC_TAMP1/RTC_TS/RTC_OUT/WKUP2, 3 PC14/OSC32_IN, 4 PC15/OSC32_OUT, 5 PH0/OSC_IN, 6 PH1/OSC_OUT, 7 ~{RST}, 8 PC0/LPTIM1_IN1/EVENTOUT/ADC_IN10, 9 PC1/LPTIM1_OUT/EVENTOUT/ADC_IN11, 10 PC2/LPTIM1_IN2/SPI2_MISO/I2S2_MCK/ADC_IN12, 11 PC3/LPTIM1_ETR/SPI2_MOSI/I2S2_SD/ADC_IN13, 12 VSSA, 13 VDDA, 14 PA0/TIM2_CH1/USART2_CTS/TIM2_ETR/COMP1_OUT/COMP1_INM6/ADC_IN0/RTC_TAMP2/W/KUP1, 15 PA1/EVENTOUT/TIM2_CH2/USART2_RTS/TIM21_ETR/COMP1_INP/ADC_IN1, 16 PA2/TIM21_CH1/TIM2_CH3/USART2_TX/COMP2_OUT/COMP2_INM6/ADC_IN2, 17 PA3/TIM21_CH2/TIM2_CH4/USART2_RX/COMP2_INP/ADC_IN3, 18 VSS, 19 VDD, 20 PA4/SPI1_NSS/USART2_CK/TIM22_ETR/COMP1_INM4/COMP2_INM4/ADC_IN4, 21 PA5/SPI1_SCK, TIM2_ETR/TIM2_CH1/COMP1_INM5/COMP2_INM5/ADC_IN5, 22 PA6/SPI1_MISO/LPUART1_CTS/TIM22_CH1/EVENTOUT/COMP1_OUT/ADC_IN6, 23 PA7/SPI1_MOSI/TIM22_CH2/EVENTOUT/COMP2_OUT/ADC_IN7, 24 PC4/EVENTOUT/LPUART1_TX/ADC_IN14, 25 PC5/LPUART1_RX/ADC_IN15, 26 PB0/EVENTOUT/ADC_IN8/VREF_OUT, 27 PB1/LPUART1_RTS/ADC_IN9/VREF_OUT, 28 PB2/LPTIM1_OUT, 29 PB10/TIM2_CH3/LPUART1_TX/SPI2_SCK/I2C2_SCL, 30 PB11/EVENTOUT/TIM2_CH4/LPUART1_RX/I2C2_SDA, 31 VSS, 32 VDD, 33 PB12/SPI2_NSS/I2S2_WS/LPUART1_RTS/I2C2_SMBA/EVENTOUT, 34 PB13/SPI2_SCK/I2S2_CK/LPUART1_CTS/I2C2_SCL/TIM21_CH1, 35 PB14/SPI2_MISO/I2S2_MCK/RTC_OUT/LPUART1_RTS/I2C2_SDA/TIM21_CH2, 36 PB15/SPI2_MOSI/I2S2_SD/RTC_REFIN, 37 PC6/TIM22_CH1, 38 PC7/TIM22_CH2, 39 PC8/TIM22_ETR, 40 PC9/TIM21_ETR, 41 PA8/MCO/EVENTOUT/USART1_CK, 42 PA9/MCO/USART1_TX, 43 PA10/USART1_RX, 44 PA11/SPI1_MISO/EVENTOUT/USART1_CTS/COMP1_OUT, 45 PA12/SPI1_MOSI/EVENTOUT/USART1_RTS/COMP2_OUT, 46 PA13/SWDIO, 47 VSS, 48 VDDIO2, 49 PA14/SWCLK/USART2_TX, 50 PA15/SPI1_NSS/TIM2_ETR/EVENTOUT/USART2_RX/TIM2_CH1, 51 PC10/LPUART1_TX, 52 PC11/LPUART1_RX, 53 PC12, 54 PD2/LPUART1_RTS, 55 PB3/SPI1_SCK/TIM2_CH2/EVENTOUT/COMP2_INN, 56 PB4/SPI1_MISO/EVENTOUT/TIM22_CH1/COMP2_INP, 57 PB5/SPI1_MOSI/LPTIM1_IN1/I2C1_SMBA/TIM22_CH2/COMP2_INP, 58 PB6/USART1_TX/I2C1_SCL/LPTIM1_ETR/COMP2_INP, 59 PB7/USART1_RX/I2C1_SDA/LPTIM1_IN2/COMP2_INP/PVD_IN, 60 BOOT0, 61 PB8/I2C1_SCL, 62 PB9/EVENTOUT/I2C1_SDA/SPI2_NSS/I2S2_WS, 63 VSS, 64 VDD

## 0195 ST STM32L100 64PIN
designator IC?
pins: 1 VLCD (power), 2 PC13-WKUP2/PC13/RTC_TAMP1/RTC_TS/RTC_OUT/WKUP2, 3 PC14-OSC32_IN "PC14-OSC32_IN/PC14/OSC32_IN", 4 PC15-OSC32_OUT "PC15-OSC32_OUT/PC15/OSC32_OUT", 5 PH0-OSC_IN "PH0-OSC_IN/PH0/OSC_IN", 6 PH1-OSC_OUT "PH1-OSC_OUT/PH1/OSC_OUT", 7 ~{RST} "NRST", 8 PC0/ LCD_SEG18/ADC_IN10/COMP1_INP "PC0/ADC_IN10/LCD_SEG18/COMP1_INP", 9 PC1/LCD_SEG19/ADC_IN11/COMP1_INP "PC1/ADC_IN11/LCD_SEG19/COMP1_INP", 10 PC2/ADC_IN12/LCD_SEG20/COMP1_INP, 11 PC3/ADC_IN13/LCD_SEG21/COMP1_INP, 12 VSSA (power), 13 VDDA (power), 14 PA0-WKUP1/PA0/WKUP1/USART2_CTS/ADC_IN0 "PA0-WKUP1/PA0/WKUP1/USART2_CTS/ADC_IN0/TIM2_CH1_ETR/COMP1_INP", 15 PA1/USART2_RTS/ADC_IN1/TIM2_CH2/LCD_SEG0 "PA1/USART2_RTS/ADC_IN1/TIM2_CH2/LCD_SEG0/COMP1_INP", 16 PA2/USART2_TX/ADC_IN2/TIM2_CH3/TIM9_CH1/LCD_SEG1 "PA2/USART2_TX/ADC_IN2/TIM2_CH3/TIM9_CH1/LCD_SEG1/COMP1_INP", 17 PA3/USART2_RX/ADC_IN3/TIM2_CH4/TIM9_CH2/LCD_SEG2 "PA3/USART2_RX/ADC_IN3/TIM2_CH4/TIM9_CH2/LCD_SEG2/COMP1_INP", 18 VSS (power) "VSS_4", 19 VDD (power) "VDD_4", 20 PA4/SPI1_NSS/USART2_CK/ADC_IN4/DAC_OUT1 "PA4/SPI1_NSS/USART2_CK/ADC_IN4/DAC_OUT1/COMP1_INP", 21 PA5/SPI1_SCK/ADC_IN5/DAC_OUT2/TIM2_CH1_ETR "PA5/SPI1_SCK/ADC_IN5/DAC_OUT2/TIM2_CH1_ETR/COMP1_INP", 22 PA6/SPI1_MISO/ADC_IN6/TIM3_CH1/LCD_SEG3/TIM10_CH1 "PA6/SPI1_MISO/ADC_IN6/TIM3_CH1/TIM1_BKIN/LCD_SEG3/TIM10_CH1/COMP1_INP", 23 PA7/SPI1_MOSI/ADC_IN7/TIM3_CH2/LCD_SEG4/TIM11_CH1 "PA7/SPI1_MOSI/ADC_IN7/LCD_SEG4", 24 PC4/ADC_IN14/LCD_SEG22/COMP1_INP, 25 PC5/ADC_IN15/LCD_SEG23/COMP1_INP, 26 PB0/ADC_IN8/TIM3_CH3/LCD_SEG5/COMP1_INP/VREF_OUT, 27 PB1/ADC_IN9/TIM3_CH4/LCD_SEG6/COMP1_INP/VREF_OUT, 28 PB2/BOOT1, 29 PB10/I2C2_SCL/USART3_TX/TIM2_CH3/LCD_SEG10, 30 PB11/I2C2_SDA/USART3_RX "PB11/I2C2_SDA/USART3_RX/TIM2_CH4/LCD_SEG11", 31 VSS (power) "VSS_1", 32 VDD (power) "VDD_1", 33 PB12/SPI2_NSS/I2C2_SMBA/USART3_CK/LCD_SEG12/ADC_IN18 "PB12/SPI2_NSS/I2C2_SMBA/USART3_CK/LCD_SEG12/ADC_IN18/COMP1_INP/TIM10_CH1", 34 PB13/SPI2_SCK/USART3_CTS/LCD_SEG13/ADC_IN19 "PB13/SPI2_SCK/USART3_CTS/LCD_SEG13/ADC_IN19/COMP1_INP/TIM9_CH1", 35 PB14/SPI2_MISO/USART3_RTS/LCD_SEG14/ADC_IN20 "PB14/SPI2_MISO/USART3_RTS/LCD_SEG14/ADC_IN20/COMP1_INP/TIM9_CH2", 36 PB15/SPI2_MOSI/LCD_SEG15/ADC_IN21, 37 PC6/TIM3_CH1/LCD_SEG24, 38 PC7/TIM3_CH2/LCD_SEG25, 39 PC8/TIM3_CH3/LCD_SEG26, 40 PC9/TIM3_CH4/LCD_SEG27, 41 PA8/USART1_CK/MCO/LCD_COM0, 42 PA9/USART1_TX/LCD_COM1, 43 PA10/USART1_RX/LCD_COM2, 44 PA11/USART1_CTS/USB_DM/SPI1_MISO, 45 PA12/USART1_RTS/USB_DP/SPI1_MOSI, 46 PA13/JTMS/SWDAT, 47 VSS (power) "VSS_2", 48 VDD (power) "VDD_2", 49 PA14/JTCK/SWCLK, 50 PA15/JTDI/TIM2_CH1_ETR/SPI1_NSS/LCD_SEG17, 51 PC10/USART3_TX/LCD_SEG28/LCD_SEG40/LCD_COM4, 52 PC11/USART3_RX/LCD_SEG29/LCD_SEG41/LCD_COM5, 53 PC12/USART3_CK/LCD_SEG30/LCD_SEG42/LCD_COM6, 54 PD2/TIM3_ETR/LCD_SEG43/LCD_COM7, 55 PB3/JTDO/TIM2_CH2/SPI1_SCK/COMP2_INM/LCD_SEG7, 56 PB4/NJTRST/TIM3_CH1/SPI1_MISO/COMP2_INP/LCD_SEG8, 57 PB5/I2C1_SMBA/TIM3_CH2/SPI1_MOSI/COMP2_INP/LCD_SEG9, 58 PB6/I2C1_SCL/TIM4_CH1/USART1_TX, 59 PB7/I2C1_SDA/TIM4_CH2/USART1_RX/PVD_IN, 60 BOOT0, 61 PB8/TIM4_CH3/I2C1_SCL/LCD_SEG16/TIM10_CH1, 62 PB9/TIM4_CH4/I2C1_SDA/LCD_COM3/TIM11_CH1, 63 VSS (power) "VSS_3", 64 VDD (power) "VDD_3"

## 0196 ST STM32L151 48PIN
designator IC?
pins: 1 VLCD, 2 PC13/RTC_TAMP1/RTC_TS/RTC_OUT/WKUP2, 3 PC14/OSC32_IN, 4 PC15/OSC32_OUT, 5 PH0/OSC_IN, 6 PH1/OSC_OUT, 7 ~{RST} "NRST", 8 VSSA, 9 VDDA, 10 PA0/WKUP1/USART2_CTS/ADC_IN0/TIM2_CH1_ETR, 11 PA1/USART2_RTS/ADC_IN1/TIM2_CH2/LCD_SEG0, 12 PA2/USART2_TX/ADC_IN2/TIM2_CH3/TIM9_CH1/LCD_SEG1, 13 PA3/USART2_RX/ADC_IN3/TIM2_CH4/TIM9_CH2/LCD_SEG2, 14 PA4/SPI1_NSS/USART2_CK/ADC_IN4/DAC_OUT1, 15 PA5/SPI1_SCK/ADC_IN5/DAC_OUT2/TIM2_CH1_ETR, 16 PA6/SPI1_MISO/ADC_IN6/TIM3_CH1/LCD_SEG3/TIM10_CH1, 17 PA7/SPI1_MOSI/ADC_IN7/TIM3_CH2/LCD_SEG4/TIM11_CH1, 18 PB0/ADC_IN8/TIM3_CH3/LCD_SEG5/VREF_OUT, 19 PB1/ADC_IN9/TIM3_CH4/LCD_SEG6/VREF_OUT, 20 PB2/BOOT1, 21 PB10/I2C2_SCL/USART3_TX/TIM2_CH3/LCD_SEG10, 22 PB11/I2C2_SDA/USART3_RX/TIM2_CH4/LCD_SEG11, 23 VSS, 24 VDD, 25 PB12/SPI2_NSS/I2C2_SMBA/USART3_CK/LCD_SEG12/ADC_IN18/TIM10_CH1, 26 PB13/SPI2_SCK/USART3_CTS/LCD_SEG13/ADC_IN19/TIM9_CH1, 27 PB14/SPI2_MISO/USART3_RTS/LCD_SEG14/ADC_IN20/TIM9_CH2, 28 PB15/SPI2_MOSI/LCD_SEG15/ADC_IN21/TIM11_CH1/RTC_REFIN, 29 PA8/USART1_CK/MCO/LCD_COM0, 30 PA9/USART1_TX/LCD_COM1, 31 PA10/USART1_RX/LCD_COM2, 32 PA11/USART1_CTS/USB_DM/SPI1_MISO, 33 PA12/USART1_RTS/USB_DP/SPI1_MOSI, 34 PA13/JTMS/SWDAT, 35 VSS, 36 VDD, 37 PA14/JTCK/SWCLK, 38 PA15/JTDI/TIM2_CH1_ETR/SPI1_NSS/LCD_SEG17, 39 PB3/JTDO/TIM2_CH2/SPI1_SCK/COMP2_INM/LCD_SEG7, 40 PB4/NJTRST/TIM3_CH1/SPI1_MISO/COMP2_INP/LCD_SEG8, 41 PB5/I2C1_SMBA/TIM3_CH2/SPI1_MOSI/COMP2_INP/LCD_SEG9, 42 PB6/I2C1_SCL/TIM4_CH1/USART1_TX, 43 PB7/I2C1_SDA/TIM4_CH2/USART1_RX/PVD_IN, 44 BOOT0, 45 PB8/TIM4_CH3/I2C1_SCL/LCD_SEG16/TIM10_CH1, 46 PB9/TIM4_CH4/I2C1_SDA/LCD_COM3/TIM11_CH1, 47 VSS, 48 VDD

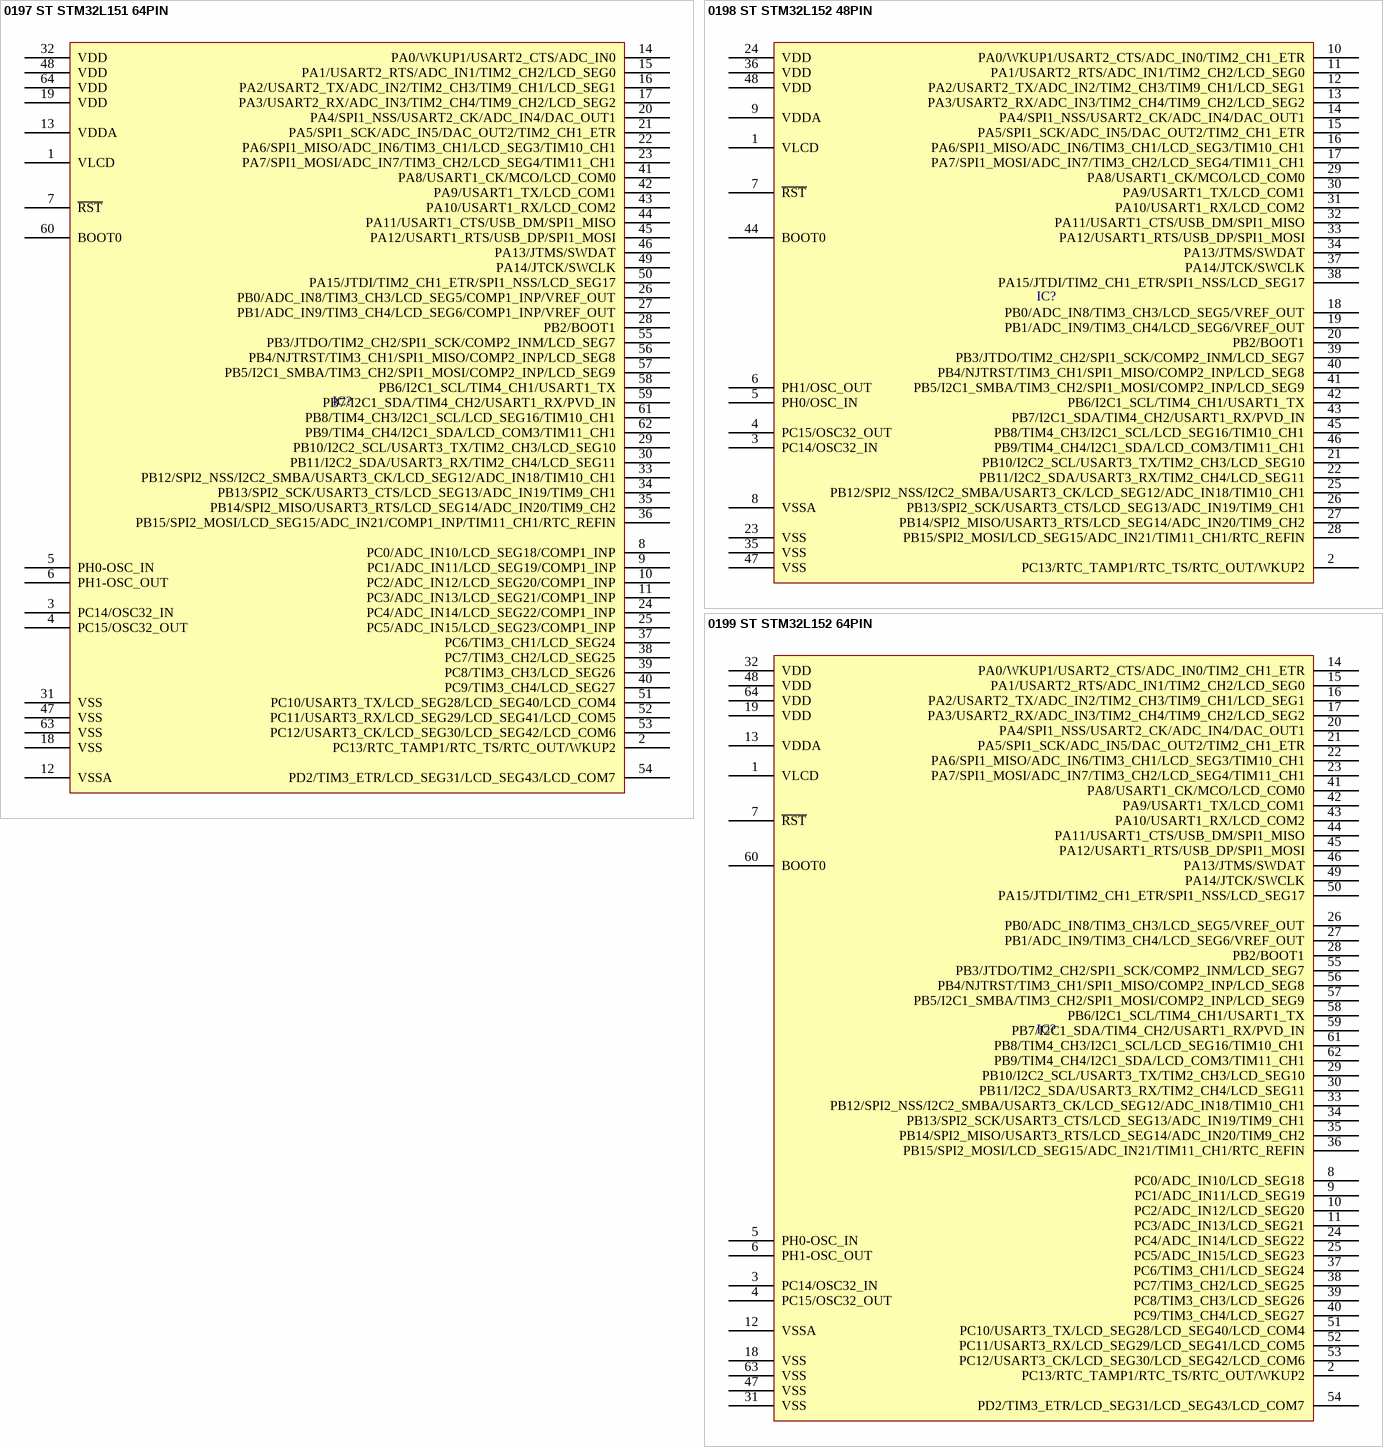
[diagram p104: symbols 0197 ST STM32L151 64PIN to 0199 ST STM32L152 64PIN]

## 0197 ST STM32L151 64PIN
designator IC?
pins: 1 VLCD, 2 PC13/RTC_TAMP1/RTC_TS/RTC_OUT/WKUP2 "PC13-WKUP2/PC13/RTC_TAMP1/RTC_TS/RTC_OUT/WKUP2", 3 PC14/OSC32_IN "PC14-OSC32_IN/PC14/OSC32_IN", 4 PC15/OSC32_OUT "PC15-OSC32_OUT/PC15/OSC32_OUT", 5 PH0-OSC_IN "PH0-OSC_IN/PH0/OSC_IN", 6 PH1-OSC_OUT "PH1-OSC_OUT/PH1/OSC_OUT", 7 ~{RST} "NRST", 8 PC0/ADC_IN10/LCD_SEG18/COMP1_INP, 9 PC1/ADC_IN11/LCD_SEG19/COMP1_INP, 10 PC2/ADC_IN12/LCD_SEG20/COMP1_INP, 11 PC3/ADC_IN13/LCD_SEG21/COMP1_INP, 12 VSSA, 13 VDDA, 14 PA0/WKUP1/USART2_CTS/ADC_IN0 "PA0-WKUP1/PA0/WKUP1/USART2_CTS/ADC_IN0/TIM2_CH1_ETR/COMP1_INP", 15 PA1/USART2_RTS/ADC_IN1/TIM2_CH2/LCD_SEG0 "PA1/USART2_RTS/ADC_IN1/TIM2_CH2/LCD_SEG0/COMP1_INP", 16 PA2/USART2_TX/ADC_IN2/TIM2_CH3/TIM9_CH1/LCD_SEG1 "PA2/USART2_TX/ADC_IN2/TIM2_CH3/TIM9_CH1/LCD_SEG1/COMP1_INP", 17 PA3/USART2_RX/ADC_IN3/TIM2_CH4/TIM9_CH2/LCD_SEG2 "PA3/USART2_RX/ADC_IN3/TIM2_CH4/TIM9_CH2/LCD_SEG2/COMP1_INP", 18 VSS, 19 VDD, 20 PA4/SPI1_NSS/USART2_CK/ADC_IN4/DAC_OUT1 "PA4/SPI1_NSS/USART2_CK/ADC_IN4/DAC_OUT1/COMP1_INP", 21 PA5/SPI1_SCK/ADC_IN5/DAC_OUT2/TIM2_CH1_ETR "PA5/SPI1_SCK/ADC_IN5/DAC_OUT2/TIM2_CH1_ETR/COMP1_INP", 22 PA6/SPI1_MISO/ADC_IN6/TIM3_CH1/LCD_SEG3/TIM10_CH1 "PA6/SPI1_MISO/ADC_IN6/TIM3_CH1/LCD_SEG3/TIM10_CH1/COMP1_INP", 23 PA7/SPI1_MOSI/ADC_IN7/TIM3_CH2/LCD_SEG4/TIM11_CH1 "PA7/SPI1_MOSI/ADC_IN7/TIM3_CH2/LCD_SEG4/TIM11_CH1/COMP1_INP", 24 PC4/ADC_IN14/LCD_SEG22/COMP1_INP, 25 PC5/ADC_IN15/LCD_SEG23/COMP1_INP, 26 PB0/ADC_IN8/TIM3_CH3/LCD_SEG5/COMP1_INP/VREF_OUT, 27 PB1/ADC_IN9/TIM3_CH4/LCD_SEG6/COMP1_INP/VREF_OUT, 28 PB2/BOOT1, 29 PB10/I2C2_SCL/USART3_TX/TIM2_CH3/LCD_SEG10, 30 PB11/I2C2_SDA/USART3_RX/TIM2_CH4/LCD_SEG11, 31 VSS, 32 VDD, 33 PB12/SPI2_NSS/I2C2_SMBA/USART3_CK/LCD_SEG12/ADC_IN18/TIM10_CH1 "PB12/SPI2_NSS/I2C2_SMBA/USART3_CK/LCD_SEG12/ADC_IN18/COMP1_INP/TIM10_CH1", 34 PB13/SPI2_SCK/USART3_CTS/LCD_SEG13/ADC_IN19/TIM9_CH1 "PB13/SPI2_SCK/USART3_CTS/LCD_SEG13/ADC_IN19/COMP1_INP/TIM9_CH1", 35 PB14/SPI2_MISO/USART3_RTS/LCD_SEG14/ADC_IN20/TIM9_CH2 "PB14/SPI2_MISO/USART3_RTS/LCD_SEG14/ADC_IN20/COMP1_INP/TIM9_CH2", 36 PB15/SPI2_MOSI/LCD_SEG15/ADC_IN21/COMP1_INP/TIM11_CH1/RTC_REFIN, 37 PC6/TIM3_CH1/LCD_SEG24, 38 PC7/TIM3_CH2/LCD_SEG25, 39 PC8/TIM3_CH3/LCD_SEG26, 40 PC9/TIM3_CH4/LCD_SEG27, 41 PA8/USART1_CK/MCO/LCD_COM0, 42 PA9/USART1_TX/LCD_COM1, 43 PA10/USART1_RX/LCD_COM2, 44 PA11/USART1_CTS/USB_DM/SPI1_MISO, 45 PA12/USART1_RTS/USB_DP/SPI1_MOSI, 46 PA13/JTMS/SWDAT, 47 VSS, 48 VDD, 49 PA14/JTCK/SWCLK, 50 PA15/JTDI/TIM2_CH1_ETR/SPI1_NSS/LCD_SEG17, 51 PC10/USART3_TX/LCD_SEG28/LCD_SEG40/LCD_COM4, 52 PC11/USART3_RX/LCD_SEG29/LCD_SEG41/LCD_COM5, 53 PC12/USART3_CK/LCD_SEG30/LCD_SEG42/LCD_COM6, 54 PD2/TIM3_ETR/LCD_SEG31/LCD_SEG43/LCD_COM7, 55 PB3/JTDO/TIM2_CH2/SPI1_SCK/COMP2_INM/LCD_SEG7, 56 PB4/NJTRST/TIM3_CH1/SPI1_MISO/COMP2_INP/LCD_SEG8, 57 PB5/I2C1_SMBA/TIM3_CH2/SPI1_MOSI/COMP2_INP/LCD_SEG9, 58 PB6/I2C1_SCL/TIM4_CH1/USART1_TX, 59 PB7/I2C1_SDA/TIM4_CH2/USART1_RX/PVD_IN, 60 BOOT0, 61 PB8/TIM4_CH3/I2C1_SCL/LCD_SEG16/TIM10_CH1, 62 PB9/TIM4_CH4/I2C1_SDA/LCD_COM3/TIM11_CH1, 63 VSS, 64 VDD

## 0198 ST STM32L152 48PIN
designator IC?
pins: 1 VLCD, 2 PC13/RTC_TAMP1/RTC_TS/RTC_OUT/WKUP2, 3 PC14/OSC32_IN "PC14-OSC32_IN/PC14/OSC32_IN", 4 PC15/OSC32_OUT "PC15-OSC32_OUT/PC15/OSC32_OUT", 5 PH0/OSC_IN "PH0-OSC_IN/PH0/OSC_IN", 6 PH1/OSC_OUT "PH1-OSC_OUT/PH1/OSC_OUT", 7 ~{RST} "NRST", 8 VSSA, 9 VDDA, 10 PA0/WKUP1/USART2_CTS/ADC_IN0/TIM2_CH1_ETR, 11 PA1/USART2_RTS/ADC_IN1/TIM2_CH2/LCD_SEG0, 12 PA2/USART2_TX/ADC_IN2/TIM2_CH3/TIM9_CH1/LCD_SEG1, 13 PA3/USART2_RX/ADC_IN3/TIM2_CH4/TIM9_CH2/LCD_SEG2, 14 PA4/SPI1_NSS/USART2_CK/ADC_IN4/DAC_OUT1, 15 PA5/SPI1_SCK/ADC_IN5/DAC_OUT2/TIM2_CH1_ETR, 16 PA6/SPI1_MISO/ADC_IN6/TIM3_CH1/LCD_SEG3/TIM10_CH1, 17 PA7/SPI1_MOSI/ADC_IN7/TIM3_CH2/LCD_SEG4/TIM11_CH1, 18 PB0/ADC_IN8/TIM3_CH3/LCD_SEG5/VREF_OUT, 19 PB1/ADC_IN9/TIM3_CH4/LCD_SEG6/VREF_OUT, 20 PB2/BOOT1, 21 PB10/I2C2_SCL/USART3_TX/TIM2_CH3/LCD_SEG10, 22 PB11/I2C2_SDA/USART3_RX/TIM2_CH4/LCD_SEG11, 23 VSS, 24 VDD, 25 PB12/SPI2_NSS/I2C2_SMBA/USART3_CK/LCD_SEG12/ADC_IN18/TIM10_CH1, 26 PB13/SPI2_SCK/USART3_CTS/LCD_SEG13/ADC_IN19/TIM9_CH1, 27 PB14/SPI2_MISO/USART3_RTS/LCD_SEG14/ADC_IN20/TIM9_CH2, 28 PB15/SPI2_MOSI/LCD_SEG15/ADC_IN21/TIM11_CH1/RTC_REFIN, 29 PA8/USART1_CK/MCO/LCD_COM0, 30 PA9/USART1_TX/LCD_COM1, 31 PA10/USART1_RX/LCD_COM2, 32 PA11/USART1_CTS/USB_DM/SPI1_MISO, 33 PA12/USART1_RTS/USB_DP/SPI1_MOSI, 34 PA13/JTMS/SWDAT, 35 VSS, 36 VDD, 37 PA14/JTCK/SWCLK, 38 PA15/JTDI/TIM2_CH1_ETR/SPI1_NSS/LCD_SEG17, 39 PB3/JTDO/TIM2_CH2/SPI1_SCK/COMP2_INM/LCD_SEG7, 40 PB4/NJTRST/TIM3_CH1/SPI1_MISO/COMP2_INP/LCD_SEG8, 41 PB5/I2C1_SMBA/TIM3_CH2/SPI1_MOSI/COMP2_INP/LCD_SEG9, 42 PB6/I2C1_SCL/TIM4_CH1/USART1_TX, 43 PB7/I2C1_SDA/TIM4_CH2/USART1_RX/PVD_IN, 44 BOOT0, 45 PB8/TIM4_CH3/I2C1_SCL/LCD_SEG16/TIM10_CH1, 46 PB9/TIM4_CH4/I2C1_SDA/LCD_COM3/TIM11_CH1, 47 VSS, 48 VDD

## 0199 ST STM32L152 64PIN
designator IC?
pins: 1 VLCD, 2 PC13/RTC_TAMP1/RTC_TS/RTC_OUT/WKUP2, 3 PC14/OSC32_IN "PC14-OSC32_IN/PC14/OSC32_IN", 4 PC15/OSC32_OUT "PC15-OSC32_OUT/PC15/OSC32_OUT", 5 PH0-OSC_IN "PH0-OSC_IN/PH0/OSC_IN", 6 PH1-OSC_OUT "PH1-OSC_OUT/PH1/OSC_OUT", 7 ~{RST} "NRST", 8 PC0/ADC_IN10/LCD_SEG18, 9 PC1/ADC_IN11/LCD_SEG19, 10 PC2/ADC_IN12/LCD_SEG20, 11 PC3/ADC_IN13/LCD_SEG21, 12 VSSA, 13 VDDA, 14 PA0/WKUP1/USART2_CTS/ADC_IN0/TIM2_CH1_ETR, 15 PA1/USART2_RTS/ADC_IN1/TIM2_CH2/LCD_SEG0, 16 PA2/USART2_TX/ADC_IN2/TIM2_CH3/TIM9_CH1/LCD_SEG1, 17 PA3/USART2_RX/ADC_IN3/TIM2_CH4/TIM9_CH2/LCD_SEG2, 18 VSS, 19 VDD, 20 PA4/SPI1_NSS/USART2_CK/ADC_IN4/DAC_OUT1, 21 PA5/SPI1_SCK/ADC_IN5/DAC_OUT2/TIM2_CH1_ETR, 22 PA6/SPI1_MISO/ADC_IN6/TIM3_CH1/LCD_SEG3/TIM10_CH1, 23 PA7/SPI1_MOSI/ADC_IN7/TIM3_CH2/LCD_SEG4/TIM11_CH1, 24 PC4/ADC_IN14/LCD_SEG22, 25 PC5/ADC_IN15/LCD_SEG23, 26 PB0/ADC_IN8/TIM3_CH3/LCD_SEG5/VREF_OUT, 27 PB1/ADC_IN9/TIM3_CH4/LCD_SEG6/VREF_OUT, 28 PB2/BOOT1, 29 PB10/I2C2_SCL/USART3_TX/TIM2_CH3/LCD_SEG10, 30 PB11/I2C2_SDA/USART3_RX/TIM2_CH4/LCD_SEG11, 31 VSS, 32 VDD, 33 PB12/SPI2_NSS/I2C2_SMBA/USART3_CK/LCD_SEG12/ADC_IN18/TIM10_CH1, 34 PB13/SPI2_SCK/USART3_CTS/LCD_SEG13/ADC_IN19/TIM9_CH1, 35 PB14/SPI2_MISO/USART3_RTS/LCD_SEG14/ADC_IN20/TIM9_CH2, 36 PB15/SPI2_MOSI/LCD_SEG15/ADC_IN21/TIM11_CH1/RTC_REFIN, 37 PC6/TIM3_CH1/LCD_SEG24, 38 PC7/TIM3_CH2/LCD_SEG25, 39 PC8/TIM3_CH3/LCD_SEG26, 40 PC9/TIM3_CH4/LCD_SEG27, 41 PA8/USART1_CK/MCO/LCD_COM0, 42 PA9/USART1_TX/LCD_COM1, 43 PA10/USART1_RX/LCD_COM2, 44 PA11/USART1_CTS/USB_DM/SPI1_MISO, 45 PA12/USART1_RTS/USB_DP/SPI1_MOSI, 46 PA13/JTMS/SWDAT, 47 VSS, 48 VDD, 49 PA14/JTCK/SWCLK, 50 PA15/JTDI/TIM2_CH1_ETR/SPI1_NSS/LCD_SEG17, 51 PC10/USART3_TX/LCD_SEG28/LCD_SEG40/LCD_COM4, 52 PC11/USART3_RX/LCD_SEG29/LCD_SEG41/LCD_COM5, 53 PC12/USART3_CK/LCD_SEG30/LCD_SEG42/LCD_COM6, 54 PD2/TIM3_ETR/LCD_SEG31/LCD_SEG43/LCD_COM7, 55 PB3/JTDO/TIM2_CH2/SPI1_SCK/COMP2_INM/LCD_SEG7, 56 PB4/NJTRST/TIM3_CH1/SPI1_MISO/COMP2_INP/LCD_SEG8, 57 PB5/I2C1_SMBA/TIM3_CH2/SPI1_MOSI/COMP2_INP/LCD_SEG9, 58 PB6/I2C1_SCL/TIM4_CH1/USART1_TX, 59 PB7/I2C1_SDA/TIM4_CH2/USART1_RX/PVD_IN, 60 BOOT0, 61 PB8/TIM4_CH3/I2C1_SCL/LCD_SEG16/TIM10_CH1, 62 PB9/TIM4_CH4/I2C1_SDA/LCD_COM3/TIM11_CH1, 63 VSS, 64 VDD

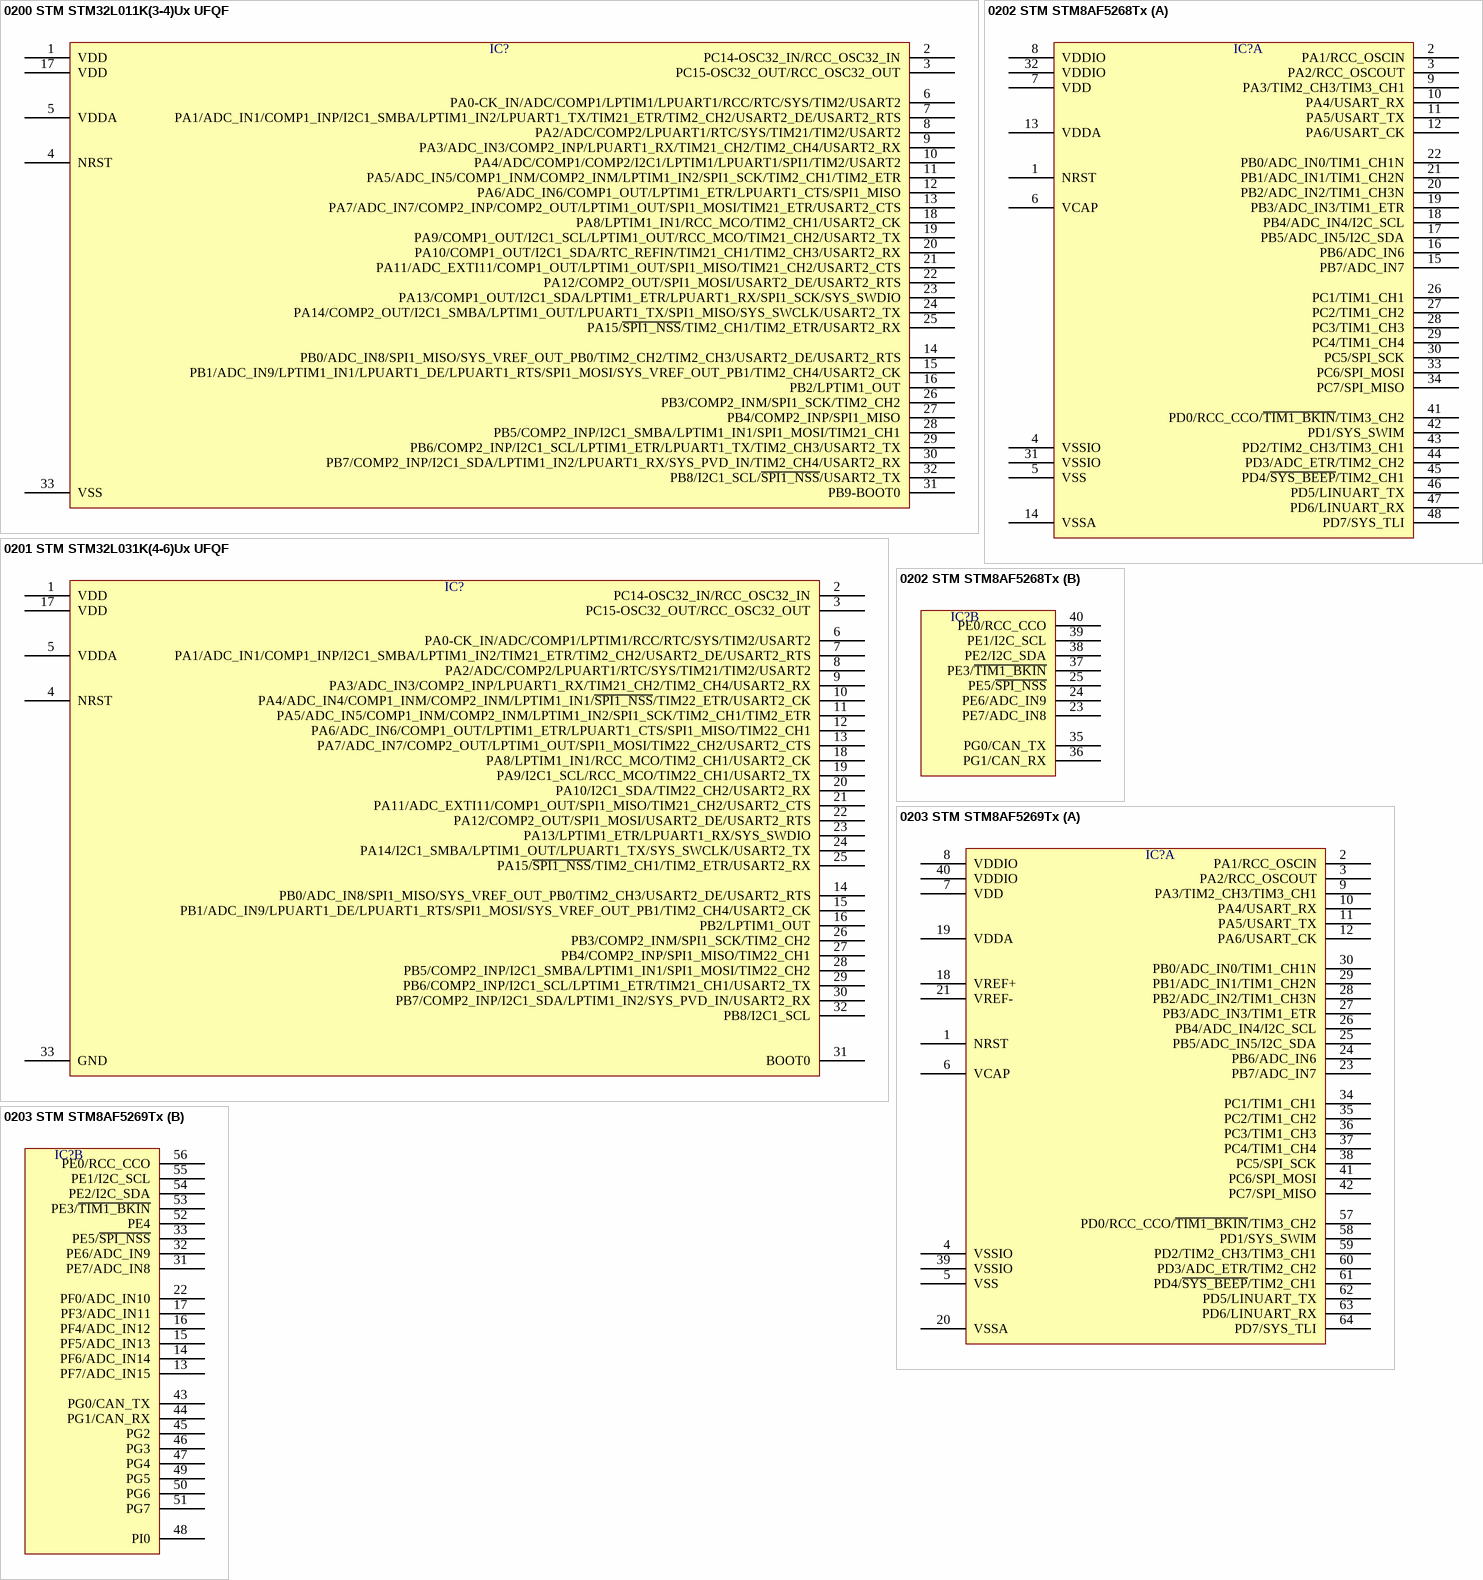
[diagram p105: symbols 0200 STM STM32L011K(3-4)Ux UFQF to 0203 STM STM8AF5269Tx]

## 0200 STM STM32L011K(3-4)Ux UFQF
designator IC?  (value not drawn)
pins: 1 VDD, 2 PC14-OSC32_IN/RCC_OSC32_IN, 3 PC15-OSC32_OUT/RCC_OSC32_OUT, 4 NRST, 5 VDDA, 6 PA0-CK_IN/ADC/COMP1/LPTIM1/LPUART1/RCC/RTC/SYS/TIM2/USART2, 7 PA1/ADC_IN1/COMP1_INP/I2C1_SMBA/LPTIM1_IN2/LPUART1_TX/TIM21_ETR/TIM2_CH2/USART2_DE/USART2_RTS, 8 PA2/ADC/COMP2/LPUART1/RTC/SYS/TIM21/TIM2/USART2, 9 PA3/ADC_IN3/COMP2_INP/LPUART1_RX/TIM21_CH2/TIM2_CH4/USART2_RX, 10 PA4/ADC/COMP1/COMP2/I2C1/LPTIM1/LPUART1/SPI1/TIM2/USART2, 11 PA5/ADC_IN5/COMP1_INM/COMP2_INM/LPTIM1_IN2/SPI1_SCK/TIM2_CH1/TIM2_ETR, 12 PA6/ADC_IN6/COMP1_OUT/LPTIM1_ETR/LPUART1_CTS/SPI1_MISO, 13 PA7/ADC_IN7/COMP2_INP/COMP2_OUT/LPTIM1_OUT/SPI1_MOSI/TIM21_ETR/USART2_CTS, 14 PB0/ADC_IN8/SPI1_MISO/SYS_VREF_OUT_PB0/TIM2_CH2/TIM2_CH3/USART2_DE/USART2_RTS, 15 PB1/ADC_IN9/LPTIM1_IN1/LPUART1_DE/LPUART1_RTS/SPI1_MOSI/SYS_VREF_OUT_PB1/TIM2_CH4/USART2_CK, 16 PB2/LPTIM1_OUT, 17 VDD, 18 PA8/LPTIM1_IN1/RCC_MCO/TIM2_CH1/USART2_CK, 19 PA9/COMP1_OUT/I2C1_SCL/LPTIM1_OUT/RCC_MCO/TIM21_CH2/USART2_TX, 20 PA10/COMP1_OUT/I2C1_SDA/RTC_REFIN/TIM21_CH1/TIM2_CH3/USART2_RX, 21 PA11/ADC_EXTI11/COMP1_OUT/LPTIM1_OUT/SPI1_MISO/TIM21_CH2/USART2_CTS, 22 PA12/COMP2_OUT/SPI1_MOSI/USART2_DE/USART2_RTS, 23 PA13/COMP1_OUT/I2C1_SDA/LPTIM1_ETR/LPUART1_RX/SPI1_SCK/SYS_SWDIO, 24 PA14/COMP2_OUT/I2C1_SMBA/LPTIM1_OUT/LPUART1_TX/SPI1_MISO/SYS_SWCLK/USART2_TX, 25 PA15/~{SPI1_NSS}/TIM2_CH1/TIM2_ETR/USART2_RX, 26 PB3/COMP2_INM/SPI1_SCK/TIM2_CH2, 27 PB4/COMP2_INP/SPI1_MISO, 28 PB5/COMP2_INP/I2C1_SMBA/LPTIM1_IN1/SPI1_MOSI/TIM21_CH1, 29 PB6/COMP2_INP/I2C1_SCL/LPTIM1_ETR/LPUART1_TX/TIM2_CH3/USART2_TX, 30 PB7/COMP2_INP/I2C1_SDA/LPTIM1_IN2/LPUART1_RX/SYS_PVD_IN/TIM2_CH4/USART2_RX, 31 PB9-BOOT0, 32 PB8/I2C1_SCL/~{SPI1_NSS}/USART2_TX, 33 VSS

## 0201 STM STM32L031K(4-6)Ux UFQF
designator IC?  (value not drawn)
pins: 1 VDD, 2 PC14-OSC32_IN/RCC_OSC32_IN, 3 PC15-OSC32_OUT/RCC_OSC32_OUT, 4 NRST, 5 VDDA, 6 PA0-CK_IN/ADC/COMP1/LPTIM1/RCC/RTC/SYS/TIM2/USART2, 7 PA1/ADC_IN1/COMP1_INP/I2C1_SMBA/LPTIM1_IN2/TIM21_ETR/TIM2_CH2/USART2_DE/USART2_RTS, 8 PA2/ADC/COMP2/LPUART1/RTC/SYS/TIM21/TIM2/USART2, 9 PA3/ADC_IN3/COMP2_INP/LPUART1_RX/TIM21_CH2/TIM2_CH4/USART2_RX, 10 PA4/ADC_IN4/COMP1_INM/COMP2_INM/LPTIM1_IN1/~{SPI1_NSS}/TIM22_ETR/USART2_CK, 11 PA5/ADC_IN5/COMP1_INM/COMP2_INM/LPTIM1_IN2/SPI1_SCK/TIM2_CH1/TIM2_ETR, 12 PA6/ADC_IN6/COMP1_OUT/LPTIM1_ETR/LPUART1_CTS/SPI1_MISO/TIM22_CH1, 13 PA7/ADC_IN7/COMP2_OUT/LPTIM1_OUT/SPI1_MOSI/TIM22_CH2/USART2_CTS, 14 PB0/ADC_IN8/SPI1_MISO/SYS_VREF_OUT_PB0/TIM2_CH3/USART2_DE/USART2_RTS, 15 PB1/ADC_IN9/LPUART1_DE/LPUART1_RTS/SPI1_MOSI/SYS_VREF_OUT_PB1/TIM2_CH4/USART2_CK, 16 PB2/LPTIM1_OUT, 17 VDD, 18 PA8/LPTIM1_IN1/RCC_MCO/TIM2_CH1/USART2_CK, 19 PA9/I2C1_SCL/RCC_MCO/TIM22_CH1/USART2_TX, 20 PA10/I2C1_SDA/TIM22_CH2/USART2_RX, 21 PA11/ADC_EXTI11/COMP1_OUT/SPI1_MISO/TIM21_CH2/USART2_CTS, 22 PA12/COMP2_OUT/SPI1_MOSI/USART2_DE/USART2_RTS, 23 PA13/LPTIM1_ETR/LPUART1_RX/SYS_SWDIO, 24 PA14/I2C1_SMBA/LPTIM1_OUT/LPUART1_TX/SYS_SWCLK/USART2_TX, 25 PA15/~{SPI1_NSS}/TIM2_CH1/TIM2_ETR/USART2_RX, 26 PB3/COMP2_INM/SPI1_SCK/TIM2_CH2, 27 PB4/COMP2_INP/SPI1_MISO/TIM22_CH1, 28 PB5/COMP2_INP/I2C1_SMBA/LPTIM1_IN1/SPI1_MOSI/TIM22_CH2, 29 PB6/COMP2_INP/I2C1_SCL/LPTIM1_ETR/TIM21_CH1/USART2_TX, 30 PB7/COMP2_INP/I2C1_SDA/LPTIM1_IN2/SYS_PVD_IN/USART2_RX, 31 BOOT0, 32 PB8/I2C1_SCL, 33 GND

## 0202 STM STM8AF5268Tx
designator IC?  (value not drawn)
part A pins: 1 NRST, 2 PA1/RCC_OSCIN, 3 PA2/RCC_OSCOUT, 4 VSSIO, 5 VSS, 6 VCAP, 7 VDD, 8 VDDIO, 9 PA3/TIM2_CH3/TIM3_CH1, 10 PA4/USART_RX, 11 PA5/USART_TX, 12 PA6/USART_CK, 13 VDDA, 14 VSSA, 15 PB7/ADC_IN7, 16 PB6/ADC_IN6, 17 PB5/ADC_IN5/I2C_SDA, 18 PB4/ADC_IN4/I2C_SCL, 19 PB3/ADC_IN3/TIM1_ETR, 20 PB2/ADC_IN2/TIM1_CH3N, 21 PB1/ADC_IN1/TIM1_CH2N, 22 PB0/ADC_IN0/TIM1_CH1N, 26 PC1/TIM1_CH1, 27 PC2/TIM1_CH2, 28 PC3/TIM1_CH3, 29 PC4/TIM1_CH4, 30 PC5/SPI_SCK, 31 VSSIO, 32 VDDIO, 33 PC6/SPI_MOSI, 34 PC7/SPI_MISO, 41 PD0/RCC_CCO/~{TIM1_BKIN}/TIM3_CH2, 42 PD1/SYS_SWIM, 43 PD2/TIM2_CH3/TIM3_CH1, 44 PD3/ADC_ETR/TIM2_CH2, 45 PD4/~{SYS_BEEP}/TIM2_CH1, 46 PD5/LINUART_TX, 47 PD6/LINUART_RX, 48 PD7/SYS_TLI
part B pins: 23 PE7/ADC_IN8, 24 PE6/ADC_IN9, 25 PE5/~{SPI_NSS}, 35 PG0/CAN_TX, 36 PG1/CAN_RX, 37 PE3/~{TIM1_BKIN}, 38 PE2/I2C_SDA, 39 PE1/I2C_SCL, 40 PE0/RCC_CCO

## 0203 STM STM8AF5269Tx
designator IC?  (value not drawn)
part A pins: 1 NRST, 2 PA1/RCC_OSCIN, 3 PA2/RCC_OSCOUT, 4 VSSIO, 5 VSS, 6 VCAP, 7 VDD, 8 VDDIO, 9 PA3/TIM2_CH3/TIM3_CH1, 10 PA4/USART_RX, 11 PA5/USART_TX, 12 PA6/USART_CK, 18 VREF+, 19 VDDA, 20 VSSA, 21 VREF-, 23 PB7/ADC_IN7, 24 PB6/ADC_IN6, 25 PB5/ADC_IN5/I2C_SDA, 26 PB4/ADC_IN4/I2C_SCL, 27 PB3/ADC_IN3/TIM1_ETR, 28 PB2/ADC_IN2/TIM1_CH3N, 29 PB1/ADC_IN1/TIM1_CH2N, 30 PB0/ADC_IN0/TIM1_CH1N, 34 PC1/TIM1_CH1, 35 PC2/TIM1_CH2, 36 PC3/TIM1_CH3, 37 PC4/TIM1_CH4, 38 PC5/SPI_SCK, 39 VSSIO, 40 VDDIO, 41 PC6/SPI_MOSI, 42 PC7/SPI_MISO, 57 PD0/RCC_CCO/~{TIM1_BKIN}/TIM3_CH2, 58 PD1/SYS_SWIM, 59 PD2/TIM2_CH3/TIM3_CH1, 60 PD3/ADC_ETR/TIM2_CH2, 61 PD4/~{SYS_BEEP}/TIM2_CH1, 62 PD5/LINUART_TX, 63 PD6/LINUART_RX, 64 PD7/SYS_TLI
part B pins: 13 PF7/ADC_IN15, 14 PF6/ADC_IN14, 15 PF5/ADC_IN13, 16 PF4/ADC_IN12, 17 PF3/ADC_IN11, 22 PF0/ADC_IN10, 31 PE7/ADC_IN8, 32 PE6/ADC_IN9, 33 PE5/~{SPI_NSS}, 43 PG0/CAN_TX, 44 PG1/CAN_RX, 45 PG2, 46 PG3, 47 PG4, 48 PI0, 49 PG5, 50 PG6, 51 PG7, 52 PE4, 53 PE3/~{TIM1_BKIN}, 54 PE2/I2C_SDA, 55 PE1/I2C_SCL, 56 PE0/RCC_CCO

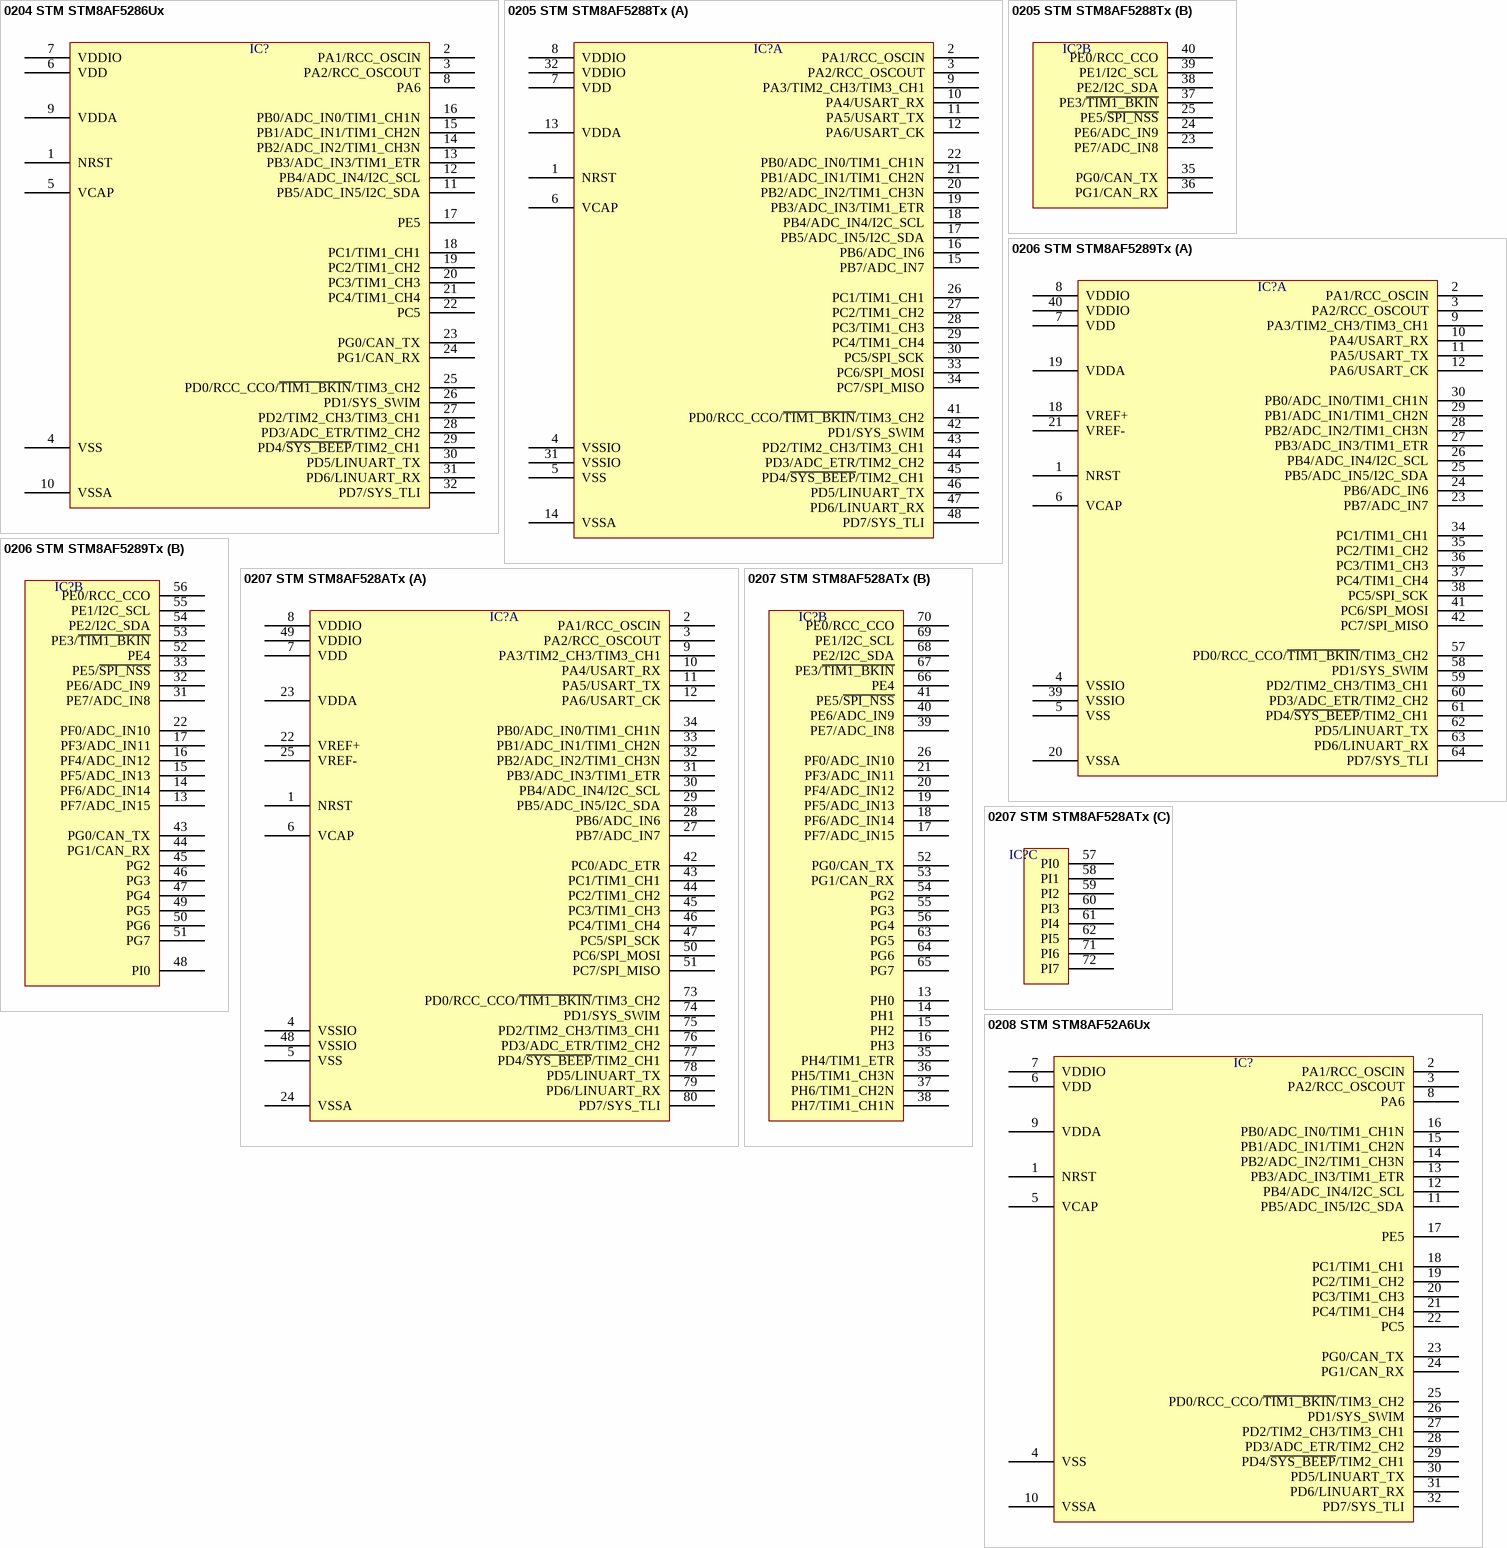
[diagram p106: symbols 0204 STM STM8AF5286Ux to 0208 STM STM8AF52A6Ux]

## 0204 STM STM8AF5286Ux
designator IC?  (value not drawn)
pins: 1 NRST, 2 PA1/RCC_OSCIN, 3 PA2/RCC_OSCOUT, 4 VSS, 5 VCAP, 6 VDD, 7 VDDIO, 8 PA6, 9 VDDA, 10 VSSA, 11 PB5/ADC_IN5/I2C_SDA, 12 PB4/ADC_IN4/I2C_SCL, 13 PB3/ADC_IN3/TIM1_ETR, 14 PB2/ADC_IN2/TIM1_CH3N, 15 PB1/ADC_IN1/TIM1_CH2N, 16 PB0/ADC_IN0/TIM1_CH1N, 17 PE5, 18 PC1/TIM1_CH1, 19 PC2/TIM1_CH2, 20 PC3/TIM1_CH3, 21 PC4/TIM1_CH4, 22 PC5, 23 PG0/CAN_TX, 24 PG1/CAN_RX, 25 PD0/RCC_CCO/~{TIM1_BKIN}/TIM3_CH2, 26 PD1/SYS_SWIM, 27 PD2/TIM2_CH3/TIM3_CH1, 28 PD3/ADC_ETR/TIM2_CH2, 29 PD4/~{SYS_BEEP}/TIM2_CH1, 30 PD5/LINUART_TX, 31 PD6/LINUART_RX, 32 PD7/SYS_TLI

## 0205 STM STM8AF5288Tx
designator IC?  (value not drawn)
part A pins: 1 NRST, 2 PA1/RCC_OSCIN, 3 PA2/RCC_OSCOUT, 4 VSSIO, 5 VSS, 6 VCAP, 7 VDD, 8 VDDIO, 9 PA3/TIM2_CH3/TIM3_CH1, 10 PA4/USART_RX, 11 PA5/USART_TX, 12 PA6/USART_CK, 13 VDDA, 14 VSSA, 15 PB7/ADC_IN7, 16 PB6/ADC_IN6, 17 PB5/ADC_IN5/I2C_SDA, 18 PB4/ADC_IN4/I2C_SCL, 19 PB3/ADC_IN3/TIM1_ETR, 20 PB2/ADC_IN2/TIM1_CH3N, 21 PB1/ADC_IN1/TIM1_CH2N, 22 PB0/ADC_IN0/TIM1_CH1N, 26 PC1/TIM1_CH1, 27 PC2/TIM1_CH2, 28 PC3/TIM1_CH3, 29 PC4/TIM1_CH4, 30 PC5/SPI_SCK, 31 VSSIO, 32 VDDIO, 33 PC6/SPI_MOSI, 34 PC7/SPI_MISO, 41 PD0/RCC_CCO/~{TIM1_BKIN}/TIM3_CH2, 42 PD1/SYS_SWIM, 43 PD2/TIM2_CH3/TIM3_CH1, 44 PD3/ADC_ETR/TIM2_CH2, 45 PD4/~{SYS_BEEP}/TIM2_CH1, 46 PD5/LINUART_TX, 47 PD6/LINUART_RX, 48 PD7/SYS_TLI
part B pins: 23 PE7/ADC_IN8, 24 PE6/ADC_IN9, 25 PE5/~{SPI_NSS}, 35 PG0/CAN_TX, 36 PG1/CAN_RX, 37 PE3/~{TIM1_BKIN}, 38 PE2/I2C_SDA, 39 PE1/I2C_SCL, 40 PE0/RCC_CCO

## 0206 STM STM8AF5289Tx
designator IC?  (value not drawn)
part A pins: 1 NRST, 2 PA1/RCC_OSCIN, 3 PA2/RCC_OSCOUT, 4 VSSIO, 5 VSS, 6 VCAP, 7 VDD, 8 VDDIO, 9 PA3/TIM2_CH3/TIM3_CH1, 10 PA4/USART_RX, 11 PA5/USART_TX, 12 PA6/USART_CK, 18 VREF+, 19 VDDA, 20 VSSA, 21 VREF-, 23 PB7/ADC_IN7, 24 PB6/ADC_IN6, 25 PB5/ADC_IN5/I2C_SDA, 26 PB4/ADC_IN4/I2C_SCL, 27 PB3/ADC_IN3/TIM1_ETR, 28 PB2/ADC_IN2/TIM1_CH3N, 29 PB1/ADC_IN1/TIM1_CH2N, 30 PB0/ADC_IN0/TIM1_CH1N, 34 PC1/TIM1_CH1, 35 PC2/TIM1_CH2, 36 PC3/TIM1_CH3, 37 PC4/TIM1_CH4, 38 PC5/SPI_SCK, 39 VSSIO, 40 VDDIO, 41 PC6/SPI_MOSI, 42 PC7/SPI_MISO, 57 PD0/RCC_CCO/~{TIM1_BKIN}/TIM3_CH2, 58 PD1/SYS_SWIM, 59 PD2/TIM2_CH3/TIM3_CH1, 60 PD3/ADC_ETR/TIM2_CH2, 61 PD4/~{SYS_BEEP}/TIM2_CH1, 62 PD5/LINUART_TX, 63 PD6/LINUART_RX, 64 PD7/SYS_TLI
part B pins: 13 PF7/ADC_IN15, 14 PF6/ADC_IN14, 15 PF5/ADC_IN13, 16 PF4/ADC_IN12, 17 PF3/ADC_IN11, 22 PF0/ADC_IN10, 31 PE7/ADC_IN8, 32 PE6/ADC_IN9, 33 PE5/~{SPI_NSS}, 43 PG0/CAN_TX, 44 PG1/CAN_RX, 45 PG2, 46 PG3, 47 PG4, 48 PI0, 49 PG5, 50 PG6, 51 PG7, 52 PE4, 53 PE3/~{TIM1_BKIN}, 54 PE2/I2C_SDA, 55 PE1/I2C_SCL, 56 PE0/RCC_CCO

## 0207 STM STM8AF528ATx
designator IC?  (value not drawn)
part A pins: 1 NRST, 2 PA1/RCC_OSCIN, 3 PA2/RCC_OSCOUT, 4 VSSIO, 5 VSS, 6 VCAP, 7 VDD, 8 VDDIO, 9 PA3/TIM2_CH3/TIM3_CH1, 10 PA4/USART_RX, 11 PA5/USART_TX, 12 PA6/USART_CK, 22 VREF+, 23 VDDA, 24 VSSA, 25 VREF-, 27 PB7/ADC_IN7, 28 PB6/ADC_IN6, 29 PB5/ADC_IN5/I2C_SDA, 30 PB4/ADC_IN4/I2C_SCL, 31 PB3/ADC_IN3/TIM1_ETR, 32 PB2/ADC_IN2/TIM1_CH3N, 33 PB1/ADC_IN1/TIM1_CH2N, 34 PB0/ADC_IN0/TIM1_CH1N, 42 PC0/ADC_ETR, 43 PC1/TIM1_CH1, 44 PC2/TIM1_CH2, 45 PC3/TIM1_CH3, 46 PC4/TIM1_CH4, 47 PC5/SPI_SCK, 48 VSSIO, 49 VDDIO, 50 PC6/SPI_MOSI, 51 PC7/SPI_MISO, 73 PD0/RCC_CCO/~{TIM1_BKIN}/TIM3_CH2, 74 PD1/SYS_SWIM, 75 PD2/TIM2_CH3/TIM3_CH1, 76 PD3/ADC_ETR/TIM2_CH2, 77 PD4/~{SYS_BEEP}/TIM2_CH1, 78 PD5/LINUART_TX, 79 PD6/LINUART_RX, 80 PD7/SYS_TLI
part B pins: 13 PH0, 14 PH1, 15 PH2, 16 PH3, 17 PF7/ADC_IN15, 18 PF6/ADC_IN14, 19 PF5/ADC_IN13, 20 PF4/ADC_IN12, 21 PF3/ADC_IN11, 26 PF0/ADC_IN10, 35 PH4/TIM1_ETR, 36 PH5/TIM1_CH3N, 37 PH6/TIM1_CH2N, 38 PH7/TIM1_CH1N, 39 PE7/ADC_IN8, 40 PE6/ADC_IN9, 41 PE5/~{SPI_NSS}, 52 PG0/CAN_TX, 53 PG1/CAN_RX, 54 PG2, 55 PG3, 56 PG4, 63 PG5, 64 PG6, 65 PG7, 66 PE4, 67 PE3/~{TIM1_BKIN}, 68 PE2/I2C_SDA, 69 PE1/I2C_SCL, 70 PE0/RCC_CCO
part C pins: 57 PI0, 58 PI1, 59 PI2, 60 PI3, 61 PI4, 62 PI5, 71 PI6, 72 PI7

## 0208 STM STM8AF52A6Ux
designator IC?  (value not drawn)
pins: 1 NRST, 2 PA1/RCC_OSCIN, 3 PA2/RCC_OSCOUT, 4 VSS, 5 VCAP, 6 VDD, 7 VDDIO, 8 PA6, 9 VDDA, 10 VSSA, 11 PB5/ADC_IN5/I2C_SDA, 12 PB4/ADC_IN4/I2C_SCL, 13 PB3/ADC_IN3/TIM1_ETR, 14 PB2/ADC_IN2/TIM1_CH3N, 15 PB1/ADC_IN1/TIM1_CH2N, 16 PB0/ADC_IN0/TIM1_CH1N, 17 PE5, 18 PC1/TIM1_CH1, 19 PC2/TIM1_CH2, 20 PC3/TIM1_CH3, 21 PC4/TIM1_CH4, 22 PC5, 23 PG0/CAN_TX, 24 PG1/CAN_RX, 25 PD0/RCC_CCO/~{TIM1_BKIN}/TIM3_CH2, 26 PD1/SYS_SWIM, 27 PD2/TIM2_CH3/TIM3_CH1, 28 PD3/ADC_ETR/TIM2_CH2, 29 PD4/~{SYS_BEEP}/TIM2_CH1, 30 PD5/LINUART_TX, 31 PD6/LINUART_RX, 32 PD7/SYS_TLI

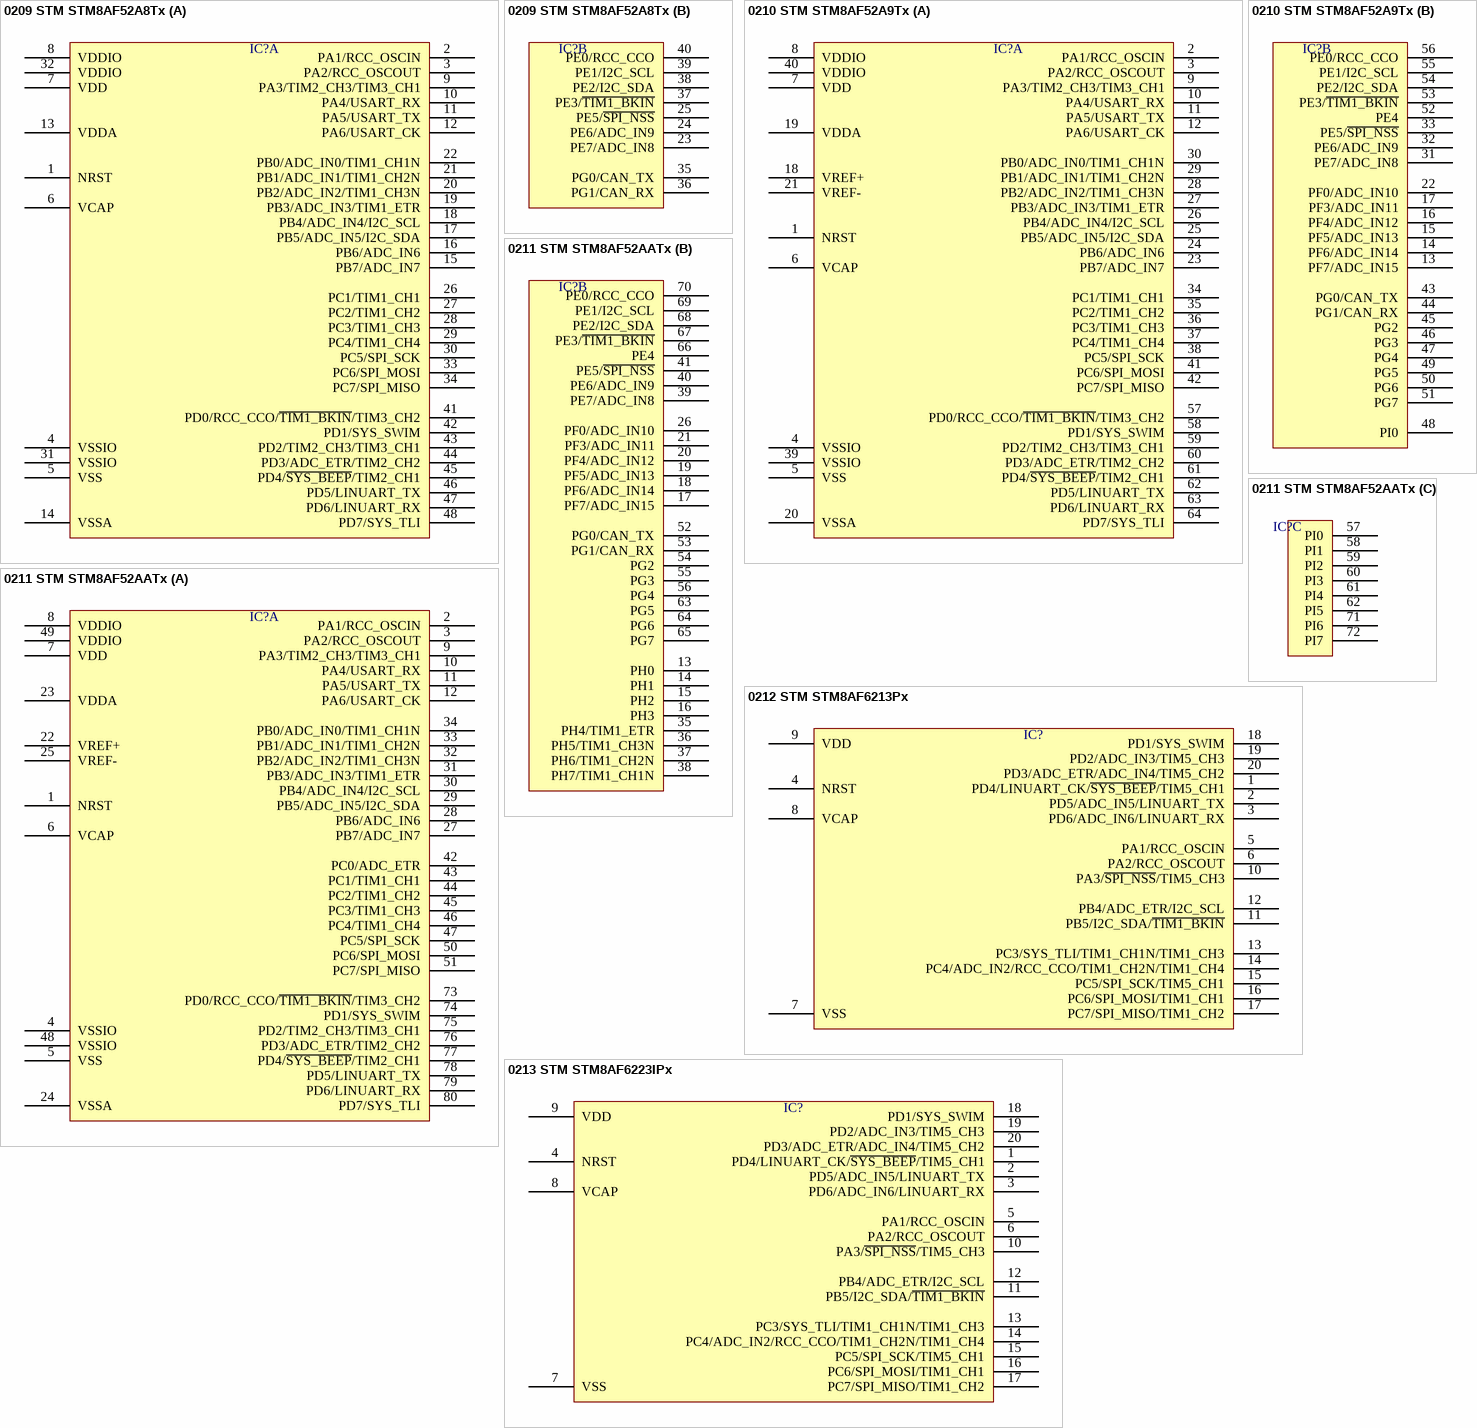
[diagram p107: symbols 0209 STM STM8AF52A8Tx to 0213 STM STM8AF6223IPx]

## 0209 STM STM8AF52A8Tx
designator IC?  (value not drawn)
part A pins: 1 NRST, 2 PA1/RCC_OSCIN, 3 PA2/RCC_OSCOUT, 4 VSSIO, 5 VSS, 6 VCAP, 7 VDD, 8 VDDIO, 9 PA3/TIM2_CH3/TIM3_CH1, 10 PA4/USART_RX, 11 PA5/USART_TX, 12 PA6/USART_CK, 13 VDDA, 14 VSSA, 15 PB7/ADC_IN7, 16 PB6/ADC_IN6, 17 PB5/ADC_IN5/I2C_SDA, 18 PB4/ADC_IN4/I2C_SCL, 19 PB3/ADC_IN3/TIM1_ETR, 20 PB2/ADC_IN2/TIM1_CH3N, 21 PB1/ADC_IN1/TIM1_CH2N, 22 PB0/ADC_IN0/TIM1_CH1N, 26 PC1/TIM1_CH1, 27 PC2/TIM1_CH2, 28 PC3/TIM1_CH3, 29 PC4/TIM1_CH4, 30 PC5/SPI_SCK, 31 VSSIO, 32 VDDIO, 33 PC6/SPI_MOSI, 34 PC7/SPI_MISO, 41 PD0/RCC_CCO/~{TIM1_BKIN}/TIM3_CH2, 42 PD1/SYS_SWIM, 43 PD2/TIM2_CH3/TIM3_CH1, 44 PD3/ADC_ETR/TIM2_CH2, 45 PD4/~{SYS_BEEP}/TIM2_CH1, 46 PD5/LINUART_TX, 47 PD6/LINUART_RX, 48 PD7/SYS_TLI
part B pins: 23 PE7/ADC_IN8, 24 PE6/ADC_IN9, 25 PE5/~{SPI_NSS}, 35 PG0/CAN_TX, 36 PG1/CAN_RX, 37 PE3/~{TIM1_BKIN}, 38 PE2/I2C_SDA, 39 PE1/I2C_SCL, 40 PE0/RCC_CCO

## 0210 STM STM8AF52A9Tx
designator IC?  (value not drawn)
part A pins: 1 NRST, 2 PA1/RCC_OSCIN, 3 PA2/RCC_OSCOUT, 4 VSSIO, 5 VSS, 6 VCAP, 7 VDD, 8 VDDIO, 9 PA3/TIM2_CH3/TIM3_CH1, 10 PA4/USART_RX, 11 PA5/USART_TX, 12 PA6/USART_CK, 18 VREF+, 19 VDDA, 20 VSSA, 21 VREF-, 23 PB7/ADC_IN7, 24 PB6/ADC_IN6, 25 PB5/ADC_IN5/I2C_SDA, 26 PB4/ADC_IN4/I2C_SCL, 27 PB3/ADC_IN3/TIM1_ETR, 28 PB2/ADC_IN2/TIM1_CH3N, 29 PB1/ADC_IN1/TIM1_CH2N, 30 PB0/ADC_IN0/TIM1_CH1N, 34 PC1/TIM1_CH1, 35 PC2/TIM1_CH2, 36 PC3/TIM1_CH3, 37 PC4/TIM1_CH4, 38 PC5/SPI_SCK, 39 VSSIO, 40 VDDIO, 41 PC6/SPI_MOSI, 42 PC7/SPI_MISO, 57 PD0/RCC_CCO/~{TIM1_BKIN}/TIM3_CH2, 58 PD1/SYS_SWIM, 59 PD2/TIM2_CH3/TIM3_CH1, 60 PD3/ADC_ETR/TIM2_CH2, 61 PD4/~{SYS_BEEP}/TIM2_CH1, 62 PD5/LINUART_TX, 63 PD6/LINUART_RX, 64 PD7/SYS_TLI
part B pins: 13 PF7/ADC_IN15, 14 PF6/ADC_IN14, 15 PF5/ADC_IN13, 16 PF4/ADC_IN12, 17 PF3/ADC_IN11, 22 PF0/ADC_IN10, 31 PE7/ADC_IN8, 32 PE6/ADC_IN9, 33 PE5/~{SPI_NSS}, 43 PG0/CAN_TX, 44 PG1/CAN_RX, 45 PG2, 46 PG3, 47 PG4, 48 PI0, 49 PG5, 50 PG6, 51 PG7, 52 PE4, 53 PE3/~{TIM1_BKIN}, 54 PE2/I2C_SDA, 55 PE1/I2C_SCL, 56 PE0/RCC_CCO

## 0211 STM STM8AF52AATx
designator IC?  (value not drawn)
part A pins: 1 NRST, 2 PA1/RCC_OSCIN, 3 PA2/RCC_OSCOUT, 4 VSSIO, 5 VSS, 6 VCAP, 7 VDD, 8 VDDIO, 9 PA3/TIM2_CH3/TIM3_CH1, 10 PA4/USART_RX, 11 PA5/USART_TX, 12 PA6/USART_CK, 22 VREF+, 23 VDDA, 24 VSSA, 25 VREF-, 27 PB7/ADC_IN7, 28 PB6/ADC_IN6, 29 PB5/ADC_IN5/I2C_SDA, 30 PB4/ADC_IN4/I2C_SCL, 31 PB3/ADC_IN3/TIM1_ETR, 32 PB2/ADC_IN2/TIM1_CH3N, 33 PB1/ADC_IN1/TIM1_CH2N, 34 PB0/ADC_IN0/TIM1_CH1N, 42 PC0/ADC_ETR, 43 PC1/TIM1_CH1, 44 PC2/TIM1_CH2, 45 PC3/TIM1_CH3, 46 PC4/TIM1_CH4, 47 PC5/SPI_SCK, 48 VSSIO, 49 VDDIO, 50 PC6/SPI_MOSI, 51 PC7/SPI_MISO, 73 PD0/RCC_CCO/~{TIM1_BKIN}/TIM3_CH2, 74 PD1/SYS_SWIM, 75 PD2/TIM2_CH3/TIM3_CH1, 76 PD3/ADC_ETR/TIM2_CH2, 77 PD4/~{SYS_BEEP}/TIM2_CH1, 78 PD5/LINUART_TX, 79 PD6/LINUART_RX, 80 PD7/SYS_TLI
part B pins: 13 PH0, 14 PH1, 15 PH2, 16 PH3, 17 PF7/ADC_IN15, 18 PF6/ADC_IN14, 19 PF5/ADC_IN13, 20 PF4/ADC_IN12, 21 PF3/ADC_IN11, 26 PF0/ADC_IN10, 35 PH4/TIM1_ETR, 36 PH5/TIM1_CH3N, 37 PH6/TIM1_CH2N, 38 PH7/TIM1_CH1N, 39 PE7/ADC_IN8, 40 PE6/ADC_IN9, 41 PE5/~{SPI_NSS}, 52 PG0/CAN_TX, 53 PG1/CAN_RX, 54 PG2, 55 PG3, 56 PG4, 63 PG5, 64 PG6, 65 PG7, 66 PE4, 67 PE3/~{TIM1_BKIN}, 68 PE2/I2C_SDA, 69 PE1/I2C_SCL, 70 PE0/RCC_CCO
part C pins: 57 PI0, 58 PI1, 59 PI2, 60 PI3, 61 PI4, 62 PI5, 71 PI6, 72 PI7

## 0212 STM STM8AF6213Px
designator IC?  (value not drawn)
pins: 1 PD4/LINUART_CK/~{SYS_BEEP}/TIM5_CH1, 2 PD5/ADC_IN5/LINUART_TX, 3 PD6/ADC_IN6/LINUART_RX, 4 NRST, 5 PA1/RCC_OSCIN, 6 PA2/RCC_OSCOUT, 7 VSS, 8 VCAP, 9 VDD, 10 PA3/~{SPI_NSS}/TIM5_CH3, 11 PB5/I2C_SDA/~{TIM1_BKIN}, 12 PB4/ADC_ETR/I2C_SCL, 13 PC3/SYS_TLI/TIM1_CH1N/TIM1_CH3, 14 PC4/ADC_IN2/RCC_CCO/TIM1_CH2N/TIM1_CH4, 15 PC5/SPI_SCK/TIM5_CH1, 16 PC6/SPI_MOSI/TIM1_CH1, 17 PC7/SPI_MISO/TIM1_CH2, 18 PD1/SYS_SWIM, 19 PD2/ADC_IN3/TIM5_CH3, 20 PD3/ADC_ETR/ADC_IN4/TIM5_CH2

## 0213 STM STM8AF6223IPx
designator IC?  (value not drawn)
pins: 1 PD4/LINUART_CK/~{SYS_BEEP}/TIM5_CH1, 2 PD5/ADC_IN5/LINUART_TX, 3 PD6/ADC_IN6/LINUART_RX, 4 NRST, 5 PA1/RCC_OSCIN, 6 PA2/RCC_OSCOUT, 7 VSS, 8 VCAP, 9 VDD, 10 PA3/~{SPI_NSS}/TIM5_CH3, 11 PB5/I2C_SDA/~{TIM1_BKIN}, 12 PB4/ADC_ETR/I2C_SCL, 13 PC3/SYS_TLI/TIM1_CH1N/TIM1_CH3, 14 PC4/ADC_IN2/RCC_CCO/TIM1_CH2N/TIM1_CH4, 15 PC5/SPI_SCK/TIM5_CH1, 16 PC6/SPI_MOSI/TIM1_CH1, 17 PC7/SPI_MISO/TIM1_CH2, 18 PD1/SYS_SWIM, 19 PD2/ADC_IN3/TIM5_CH3, 20 PD3/ADC_ETR/ADC_IN4/TIM5_CH2

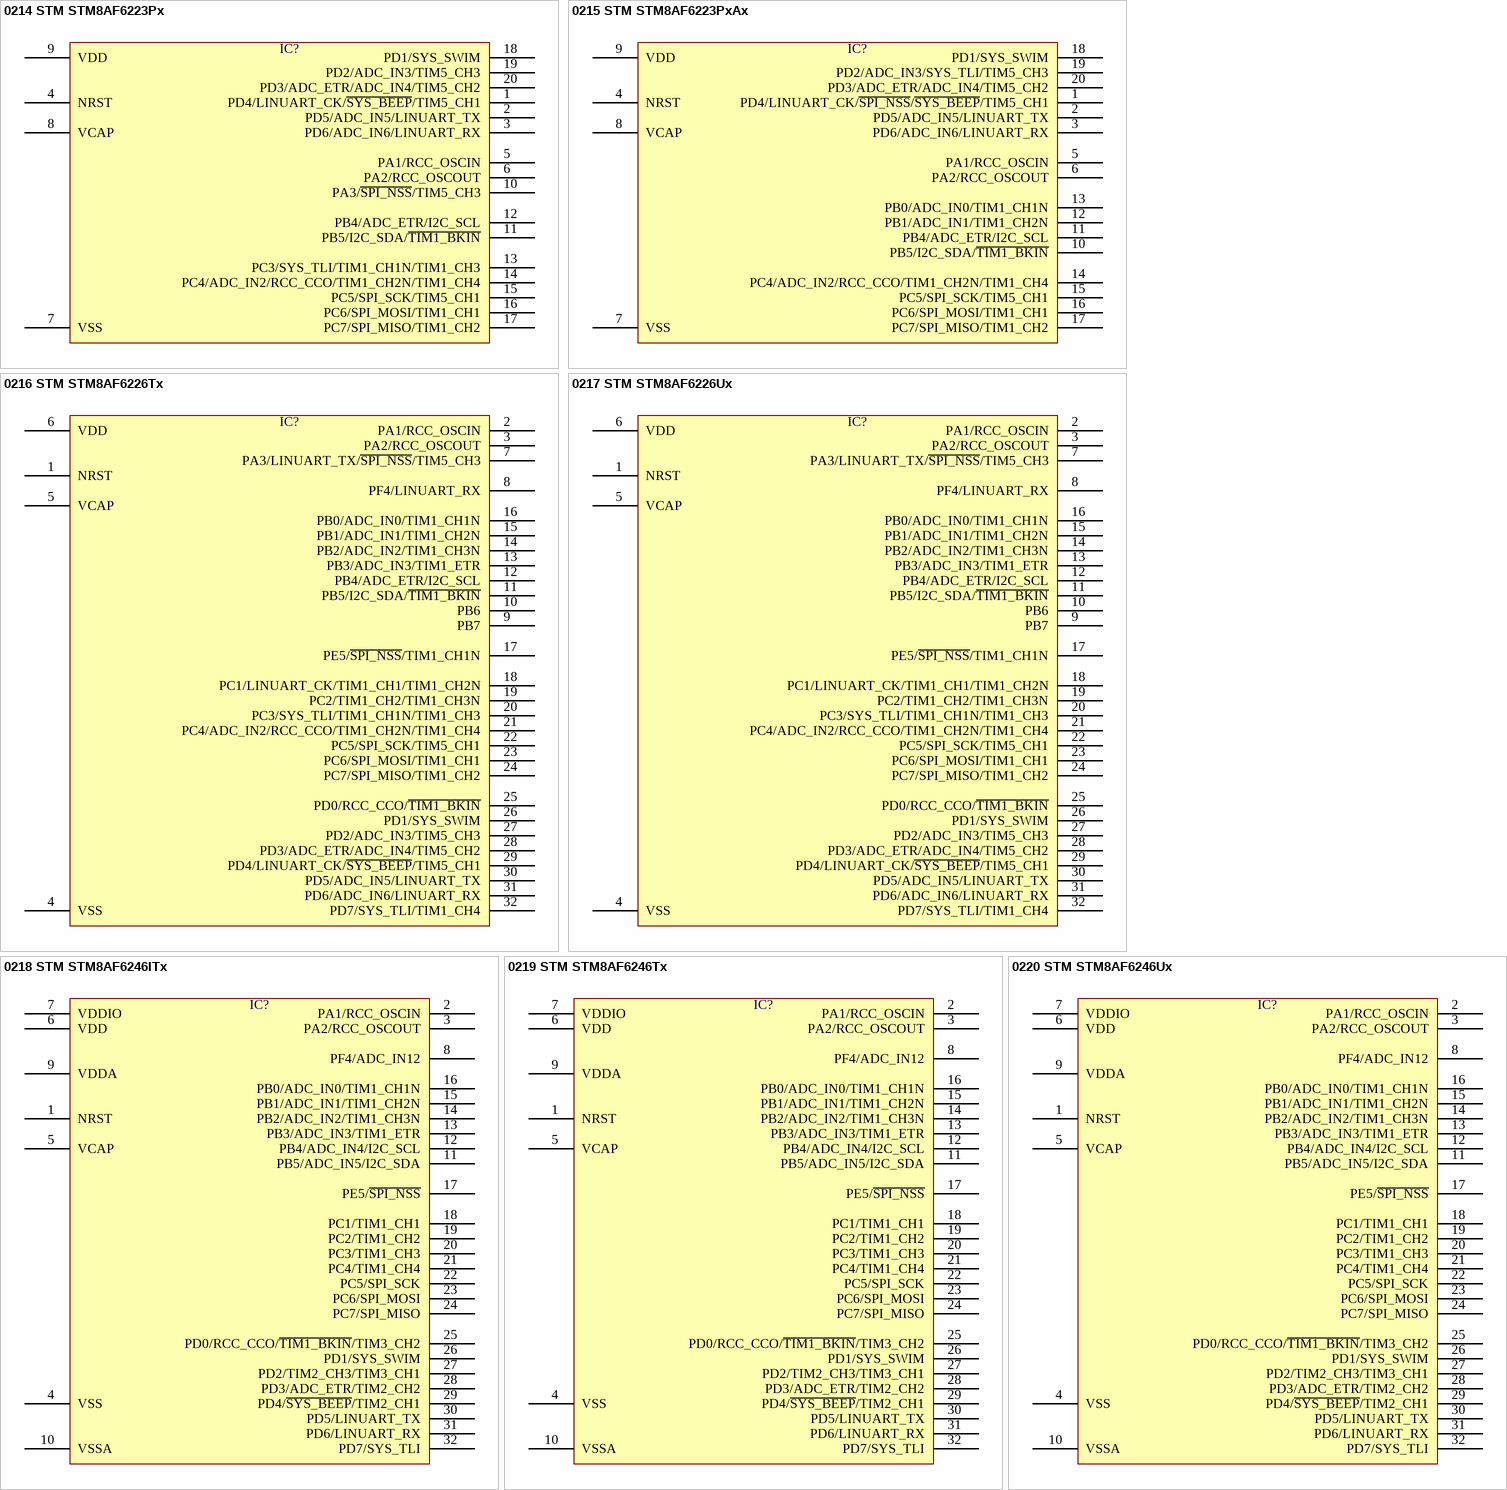
[diagram p108: symbols 0214 STM STM8AF6223Px to 0220 STM STM8AF6246Ux]

## 0214 STM STM8AF6223Px
designator IC?  (value not drawn)
pins: 1 PD4/LINUART_CK/~{SYS_BEEP}/TIM5_CH1, 2 PD5/ADC_IN5/LINUART_TX, 3 PD6/ADC_IN6/LINUART_RX, 4 NRST, 5 PA1/RCC_OSCIN, 6 PA2/RCC_OSCOUT, 7 VSS, 8 VCAP, 9 VDD, 10 PA3/~{SPI_NSS}/TIM5_CH3, 11 PB5/I2C_SDA/~{TIM1_BKIN}, 12 PB4/ADC_ETR/I2C_SCL, 13 PC3/SYS_TLI/TIM1_CH1N/TIM1_CH3, 14 PC4/ADC_IN2/RCC_CCO/TIM1_CH2N/TIM1_CH4, 15 PC5/SPI_SCK/TIM5_CH1, 16 PC6/SPI_MOSI/TIM1_CH1, 17 PC7/SPI_MISO/TIM1_CH2, 18 PD1/SYS_SWIM, 19 PD2/ADC_IN3/TIM5_CH3, 20 PD3/ADC_ETR/ADC_IN4/TIM5_CH2

## 0215 STM STM8AF6223PxAx
designator IC?  (value not drawn)
pins: 1 PD4/LINUART_CK/~{SPI_NSS}/~{SYS_BEEP}/TIM5_CH1, 2 PD5/ADC_IN5/LINUART_TX, 3 PD6/ADC_IN6/LINUART_RX, 4 NRST, 5 PA1/RCC_OSCIN, 6 PA2/RCC_OSCOUT, 7 VSS, 8 VCAP, 9 VDD, 10 PB5/I2C_SDA/~{TIM1_BKIN}, 11 PB4/ADC_ETR/I2C_SCL, 12 PB1/ADC_IN1/TIM1_CH2N, 13 PB0/ADC_IN0/TIM1_CH1N, 14 PC4/ADC_IN2/RCC_CCO/TIM1_CH2N/TIM1_CH4, 15 PC5/SPI_SCK/TIM5_CH1, 16 PC6/SPI_MOSI/TIM1_CH1, 17 PC7/SPI_MISO/TIM1_CH2, 18 PD1/SYS_SWIM, 19 PD2/ADC_IN3/SYS_TLI/TIM5_CH3, 20 PD3/ADC_ETR/ADC_IN4/TIM5_CH2

## 0216 STM STM8AF6226Tx
designator IC?  (value not drawn)
pins: 1 NRST, 2 PA1/RCC_OSCIN, 3 PA2/RCC_OSCOUT, 4 VSS, 5 VCAP, 6 VDD, 7 PA3/LINUART_TX/~{SPI_NSS}/TIM5_CH3, 8 PF4/LINUART_RX, 9 PB7, 10 PB6, 11 PB5/I2C_SDA/~{TIM1_BKIN}, 12 PB4/ADC_ETR/I2C_SCL, 13 PB3/ADC_IN3/TIM1_ETR, 14 PB2/ADC_IN2/TIM1_CH3N, 15 PB1/ADC_IN1/TIM1_CH2N, 16 PB0/ADC_IN0/TIM1_CH1N, 17 PE5/~{SPI_NSS}/TIM1_CH1N, 18 PC1/LINUART_CK/TIM1_CH1/TIM1_CH2N, 19 PC2/TIM1_CH2/TIM1_CH3N, 20 PC3/SYS_TLI/TIM1_CH1N/TIM1_CH3, 21 PC4/ADC_IN2/RCC_CCO/TIM1_CH2N/TIM1_CH4, 22 PC5/SPI_SCK/TIM5_CH1, 23 PC6/SPI_MOSI/TIM1_CH1, 24 PC7/SPI_MISO/TIM1_CH2, 25 PD0/RCC_CCO/~{TIM1_BKIN}, 26 PD1/SYS_SWIM, 27 PD2/ADC_IN3/TIM5_CH3, 28 PD3/ADC_ETR/ADC_IN4/TIM5_CH2, 29 PD4/LINUART_CK/~{SYS_BEEP}/TIM5_CH1, 30 PD5/ADC_IN5/LINUART_TX, 31 PD6/ADC_IN6/LINUART_RX, 32 PD7/SYS_TLI/TIM1_CH4

## 0217 STM STM8AF6226Ux
designator IC?  (value not drawn)
pins: 1 NRST, 2 PA1/RCC_OSCIN, 3 PA2/RCC_OSCOUT, 4 VSS, 5 VCAP, 6 VDD, 7 PA3/LINUART_TX/~{SPI_NSS}/TIM5_CH3, 8 PF4/LINUART_RX, 9 PB7, 10 PB6, 11 PB5/I2C_SDA/~{TIM1_BKIN}, 12 PB4/ADC_ETR/I2C_SCL, 13 PB3/ADC_IN3/TIM1_ETR, 14 PB2/ADC_IN2/TIM1_CH3N, 15 PB1/ADC_IN1/TIM1_CH2N, 16 PB0/ADC_IN0/TIM1_CH1N, 17 PE5/~{SPI_NSS}/TIM1_CH1N, 18 PC1/LINUART_CK/TIM1_CH1/TIM1_CH2N, 19 PC2/TIM1_CH2/TIM1_CH3N, 20 PC3/SYS_TLI/TIM1_CH1N/TIM1_CH3, 21 PC4/ADC_IN2/RCC_CCO/TIM1_CH2N/TIM1_CH4, 22 PC5/SPI_SCK/TIM5_CH1, 23 PC6/SPI_MOSI/TIM1_CH1, 24 PC7/SPI_MISO/TIM1_CH2, 25 PD0/RCC_CCO/~{TIM1_BKIN}, 26 PD1/SYS_SWIM, 27 PD2/ADC_IN3/TIM5_CH3, 28 PD3/ADC_ETR/ADC_IN4/TIM5_CH2, 29 PD4/LINUART_CK/~{SYS_BEEP}/TIM5_CH1, 30 PD5/ADC_IN5/LINUART_TX, 31 PD6/ADC_IN6/LINUART_RX, 32 PD7/SYS_TLI/TIM1_CH4

## 0218 STM STM8AF6246ITx
designator IC?  (value not drawn)
pins: 1 NRST, 2 PA1/RCC_OSCIN, 3 PA2/RCC_OSCOUT, 4 VSS, 5 VCAP, 6 VDD, 7 VDDIO, 8 PF4/ADC_IN12, 9 VDDA, 10 VSSA, 11 PB5/ADC_IN5/I2C_SDA, 12 PB4/ADC_IN4/I2C_SCL, 13 PB3/ADC_IN3/TIM1_ETR, 14 PB2/ADC_IN2/TIM1_CH3N, 15 PB1/ADC_IN1/TIM1_CH2N, 16 PB0/ADC_IN0/TIM1_CH1N, 17 PE5/~{SPI_NSS}, 18 PC1/TIM1_CH1, 19 PC2/TIM1_CH2, 20 PC3/TIM1_CH3, 21 PC4/TIM1_CH4, 22 PC5/SPI_SCK, 23 PC6/SPI_MOSI, 24 PC7/SPI_MISO, 25 PD0/RCC_CCO/~{TIM1_BKIN}/TIM3_CH2, 26 PD1/SYS_SWIM, 27 PD2/TIM2_CH3/TIM3_CH1, 28 PD3/ADC_ETR/TIM2_CH2, 29 PD4/~{SYS_BEEP}/TIM2_CH1, 30 PD5/LINUART_TX, 31 PD6/LINUART_RX, 32 PD7/SYS_TLI

## 0219 STM STM8AF6246Tx
designator IC?  (value not drawn)
pins: 1 NRST, 2 PA1/RCC_OSCIN, 3 PA2/RCC_OSCOUT, 4 VSS, 5 VCAP, 6 VDD, 7 VDDIO, 8 PF4/ADC_IN12, 9 VDDA, 10 VSSA, 11 PB5/ADC_IN5/I2C_SDA, 12 PB4/ADC_IN4/I2C_SCL, 13 PB3/ADC_IN3/TIM1_ETR, 14 PB2/ADC_IN2/TIM1_CH3N, 15 PB1/ADC_IN1/TIM1_CH2N, 16 PB0/ADC_IN0/TIM1_CH1N, 17 PE5/~{SPI_NSS}, 18 PC1/TIM1_CH1, 19 PC2/TIM1_CH2, 20 PC3/TIM1_CH3, 21 PC4/TIM1_CH4, 22 PC5/SPI_SCK, 23 PC6/SPI_MOSI, 24 PC7/SPI_MISO, 25 PD0/RCC_CCO/~{TIM1_BKIN}/TIM3_CH2, 26 PD1/SYS_SWIM, 27 PD2/TIM2_CH3/TIM3_CH1, 28 PD3/ADC_ETR/TIM2_CH2, 29 PD4/~{SYS_BEEP}/TIM2_CH1, 30 PD5/LINUART_TX, 31 PD6/LINUART_RX, 32 PD7/SYS_TLI